# Altium integrated library Protel DOS Schematic Libraries.IntLib: 1273 symbols (part 6 of 9)
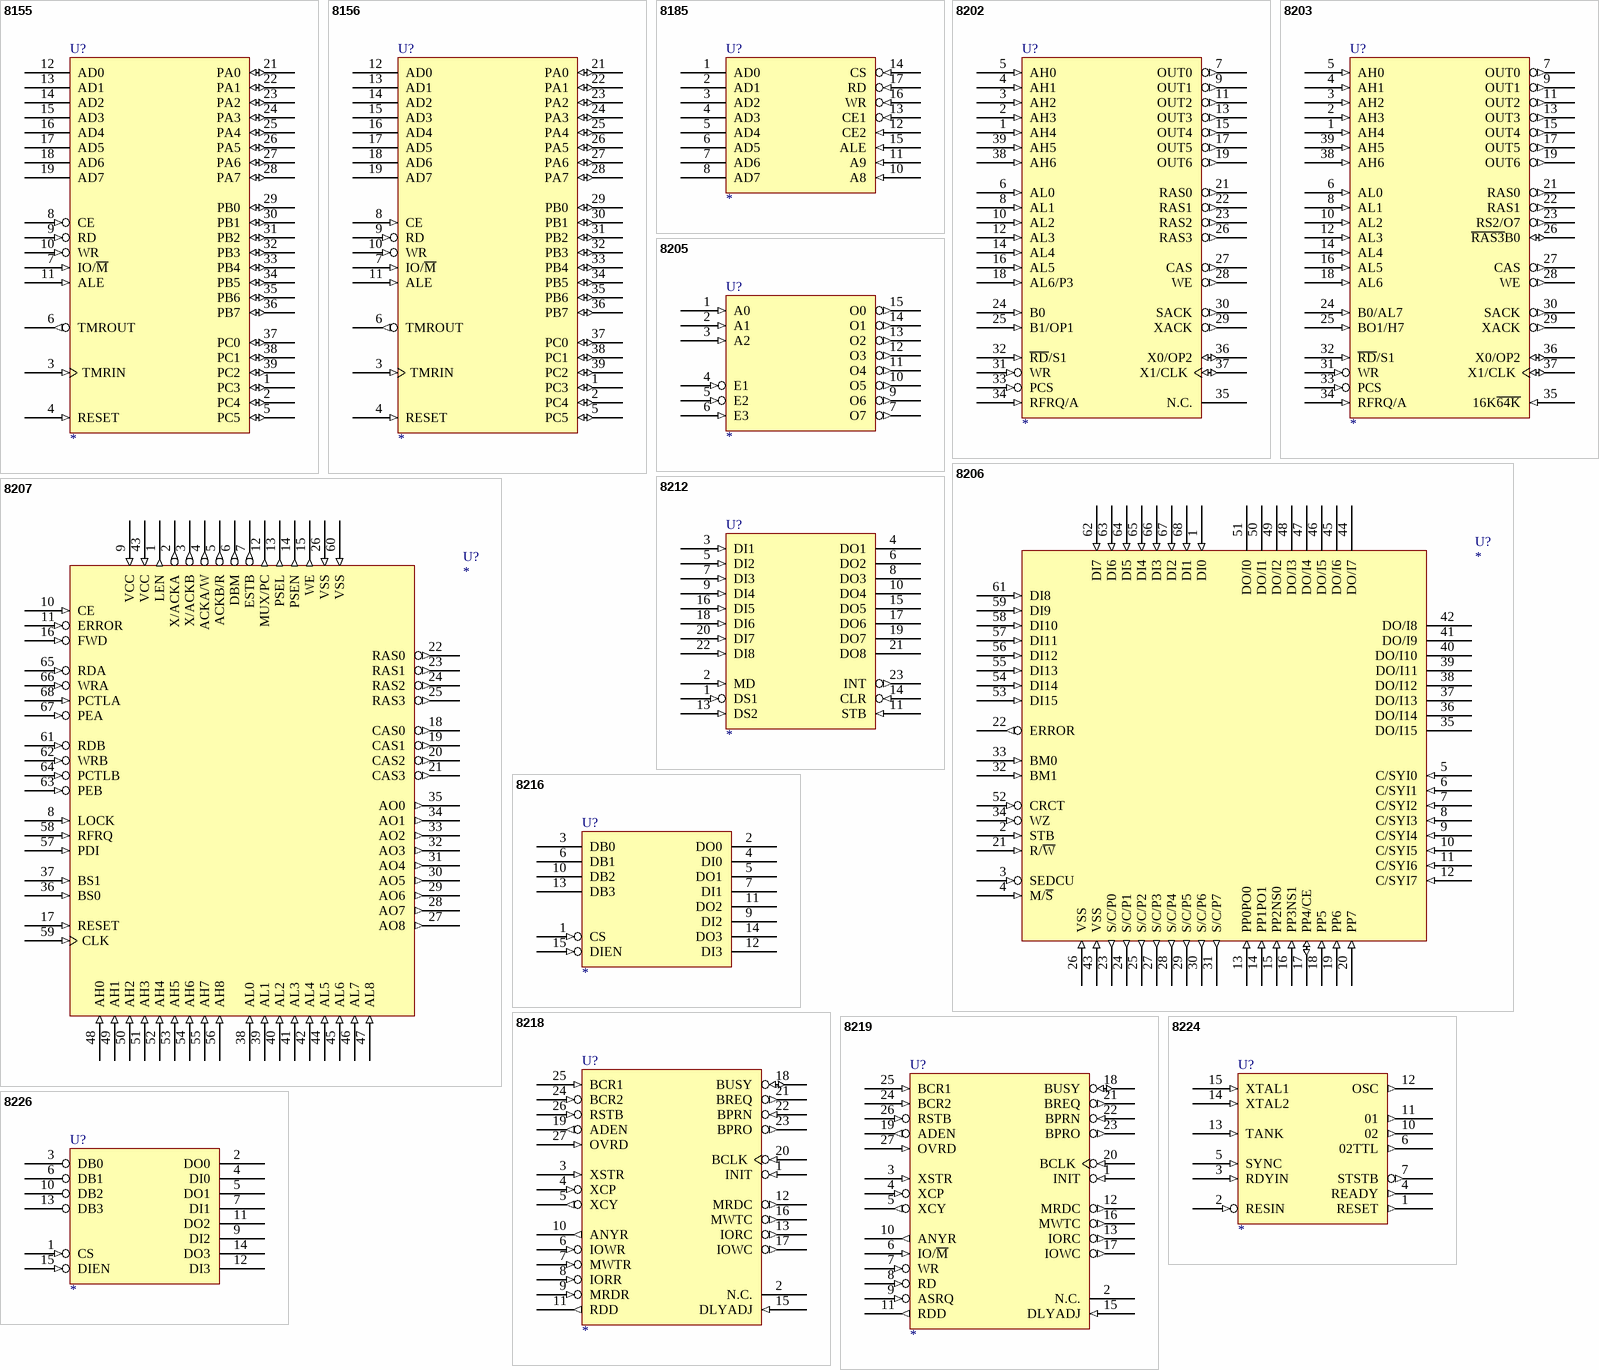
[diagram p74: symbols 8155 to 8226]

## 8219
designator U?
footprint DIP-28
pins: 1 INIT (in), 2 N.C., 3 XSTR (in), 4 XCP (in), 5 XCY (out), 6 IO/~{M} (in), 7 WR (in), 8 RD (in), 9 ASRQ (in), 10 ANYR (out), 11 RDD (out), 12 MRDC (out), 13 IORC (out), 14 GND (power) hidden to GND, 15 DLYADJ (in), 16 MWTC (out), 17 IOWC (out), 18 BUSY (io), 19 ADEN (out), 20 BCLK (in), 21 BREQ (out), 22 BPRN (in), 23 BPRO (out), 24 BCR2 (in), 25 BCR1 (in), 26 RSTB (in), 27 OVRD (in), 28 VCC (power) hidden to VCC

## 8224
designator U?
footprint DIP-16
pins: 1 RESET (out), 2 RESIN (in), 3 RDYIN (in), 4 READY (out), 5 SYNC (in), 6 02TTL (out), 7 STSTB (out), 8 GND (power) hidden to GND, 9 VDD (power) hidden to VDD, 10 02 (out), 11 01 (out), 12 OSC (out), 13 TANK (in), 14 XTAL2 (in), 15 XTAL1 (in), 16 VCC (power) hidden to VCC

## 8226
designator U?
footprint DIP-16
pins: 1 CS (in), 2 DO0 (hiz), 3 DB0 (hiz), 4 DI0 (hiz), 5 DO1 (hiz), 6 DB1 (hiz), 7 DI1 (hiz), 8 GND (power) hidden to GND, 9 DI2 (hiz), 10 DB2 (hiz), 11 DO2 (hiz), 12 DI3 (hiz), 13 DB3 (hiz), 14 DO3 (hiz), 15 DIEN (in), 16 VCC (power) hidden to VCC

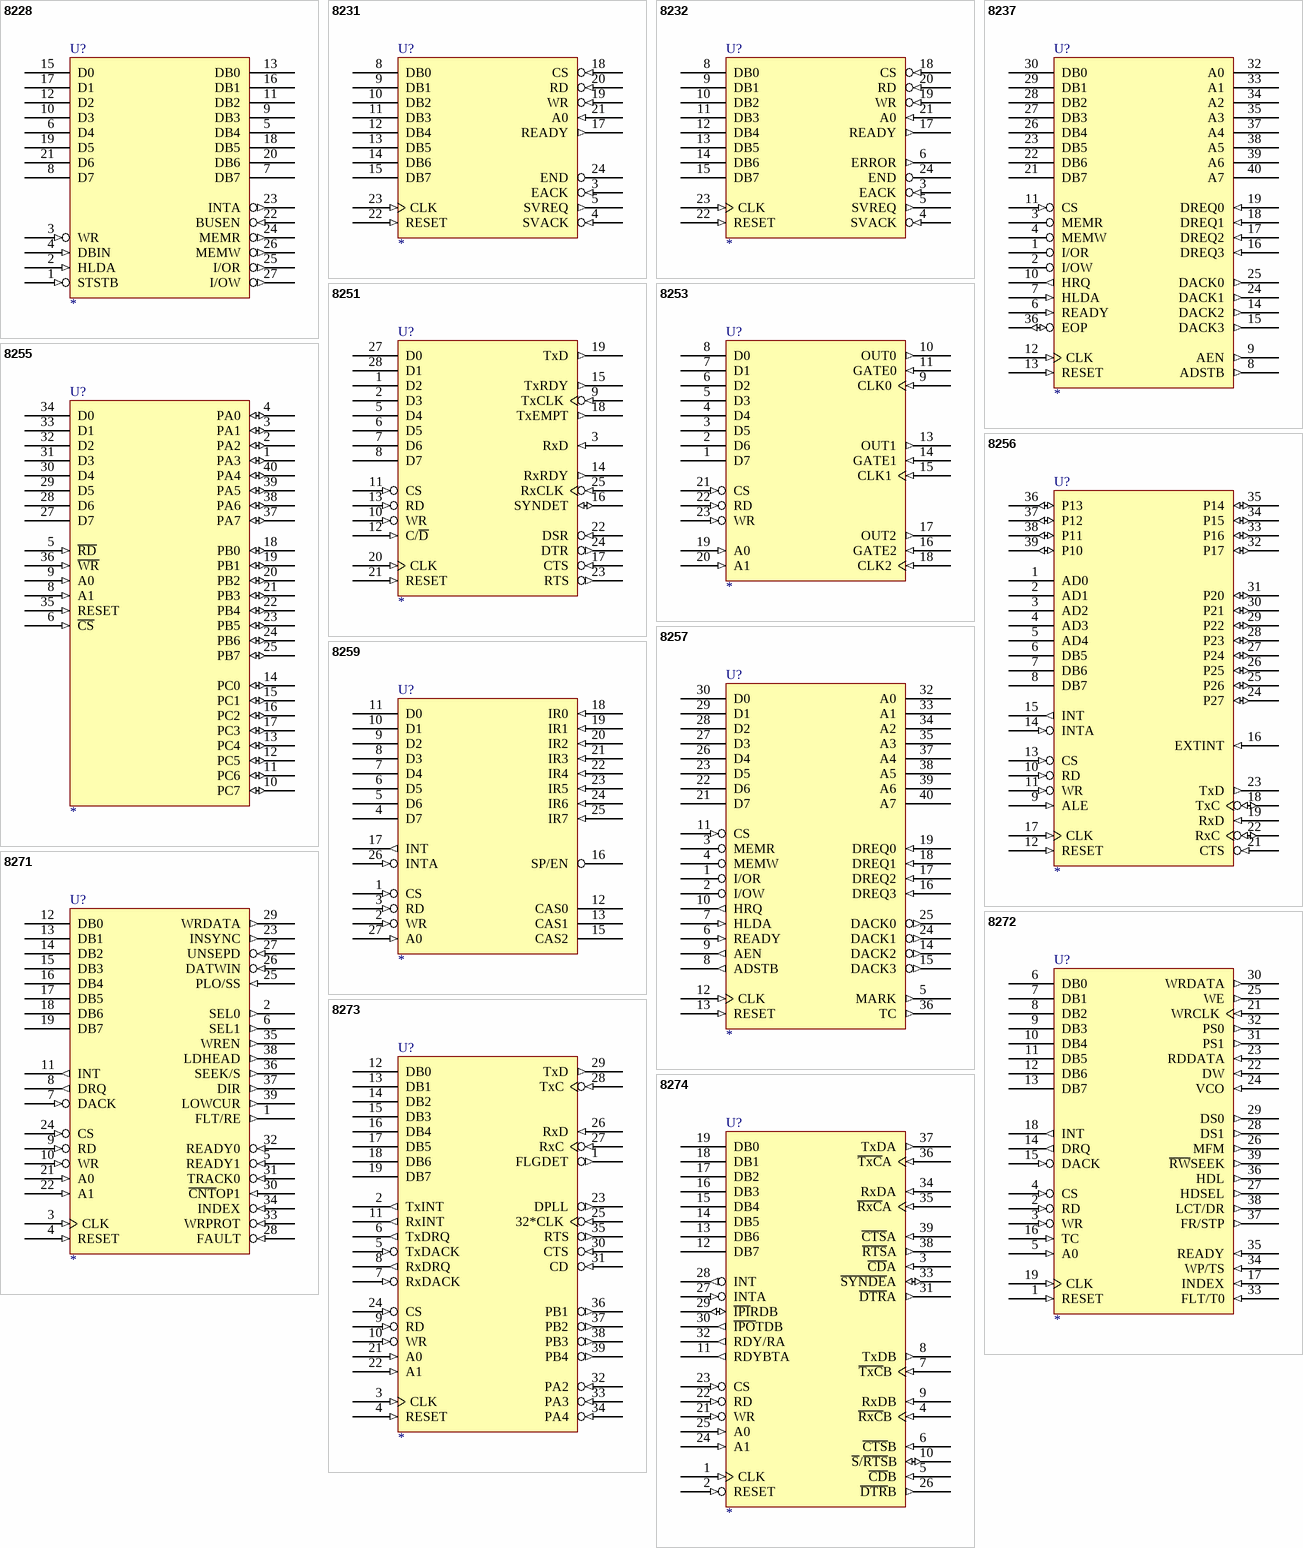
[diagram p39: symbols 8228 to 8274]

## 8228
designator U?
footprint DIP-28
pins: 1 STSTB (in), 2 HLDA (in), 3 WR (in), 4 DBIN (in), 5 DB4 (hiz), 6 D4 (hiz), 7 DB7 (hiz), 8 D7 (hiz), 9 DB3 (hiz), 10 D3 (hiz), 11 DB2 (hiz), 12 D2 (hiz), 13 DB0 (hiz), 14 GND (power) hidden to GND, 15 D0 (hiz), 16 DB1 (hiz), 17 D1 (hiz), 18 DB5 (hiz), 19 D5 (hiz), 20 DB6 (hiz), 21 D6 (hiz), 22 BUSEN (in), 23 INTA (out), 24 MEMR (out), 25 I/OR (out), 26 MEMW (out), 27 I/OW (out), 28 VCC (power) hidden to VCC

## 8231
designator U?
footprint DIP-24
pins: 1 GND (power) hidden to GND, 2 VCC (power) hidden to VCC, 3 EACK (in), 4 SVACK (in), 5 SVREQ (out), 6 GND (power) hidden to GND, 7 GND (power) hidden to GND, 8 DB0 (hiz), 9 DB1 (hiz), 10 DB2 (hiz), 11 DB3 (hiz), 12 DB4 (hiz), 13 DB5 (hiz), 14 DB6 (hiz), 15 DB7 (hiz), 16 VDD (power) hidden to VDD, 17 READY (out), 18 CS (in), 19 WR (in), 20 RD (in), 21 A0 (in), 22 RESET (in), 23 CLK (in), 24 END (oc)

## 8232
designator U?
footprint DIP-24
pins: 1 GND (power) hidden to GND, 2 VCC (power) hidden to VCC, 3 EACK (in), 4 SVACK (in), 5 SVREQ (out), 6 ERROR (out), 7 GND (power) hidden to GND, 8 DB0 (hiz), 9 DB1 (hiz), 10 DB2 (hiz), 11 DB3 (hiz), 12 DB4 (hiz), 13 DB5 (hiz), 14 DB6 (hiz), 15 DB7 (hiz), 16 VDD (power) hidden to VDD, 17 READY (out), 18 CS (in), 19 WR (in), 20 RD (in), 21 A0 (in), 22 RESET (in), 23 CLK (in), 24 END (oc)

## 8237
designator U?
footprint DIP-40
pins: 1 I/OR (hiz), 2 I/OW (hiz), 3 MEMR (hiz), 4 MEMW (hiz), 5 VCC (power) hidden to VCC, 6 READY (in), 7 HLDA (in), 8 ADSTB (out), 9 AEN (out), 10 HRQ (out), 11 CS (in), 12 CLK (in), 13 RESET (in), 14 DACK2 (out), 15 DACK3 (out), 16 DREQ3 (in), 17 DREQ2 (in), 18 DREQ1 (in), 19 DREQ0 (in), 20 GND (power) hidden to GND, 21 DB7 (hiz), 22 DB6 (hiz), 23 DB5 (hiz), 24 DACK1 (out), 25 DACK0 (out), 26 DB4 (hiz), 27 DB3 (hiz), 28 DB2 (hiz), 29 DB1 (hiz), 30 DB0 (hiz), 31 VCC (power) hidden to VCC, 32 A0 (hiz), 33 A1 (hiz), 34 A2 (hiz), 35 A3 (hiz), 36 EOP (io), 37 A4 (hiz), 38 A5 (hiz), 39 A6 (hiz), 40 A7 (hiz)

## 8251
designator U?
footprint DIP-28
pins: 1 D2 (hiz), 2 D3 (hiz), 3 RxD (in), 4 GND (power) hidden to GND, 5 D4 (hiz), 6 D5 (hiz), 7 D6 (hiz), 8 D7 (hiz), 9 TxCLK (in), 10 WR (in), 11 CS (in), 12 C/~{D} (in), 13 RD (in), 14 RxRDY (out), 15 TxRDY (out), 16 SYNDET (io), 17 CTS (in), 18 TxEMPT (out), 19 TxD (out), 20 CLK (in), 21 RESET (in), 22 DSR (in), 23 RTS (out), 24 DTR (out), 25 RxCLK (in), 26 VCC (power) hidden to VCC, 27 D0 (hiz), 28 D1 (hiz)

## 8253
designator U?
footprint DIP-24
pins: 1 D7 (hiz), 2 D6 (hiz), 3 D5 (hiz), 4 D4 (hiz), 5 D3 (hiz), 6 D2 (hiz), 7 D1 (hiz), 8 D0 (hiz), 9 CLK0 (in), 10 OUT0 (out), 11 GATE0 (in), 12 GND (power) hidden to GND, 13 OUT1 (out), 14 GATE1 (in), 15 CLK1 (in), 16 GATE2 (in), 17 OUT2 (out), 18 CLK2 (in), 19 A0 (in), 20 A1 (in), 21 CS (in), 22 RD (in), 23 WR (in), 24 VCC (power) hidden to VCC

## 8255
designator U?
footprint DIP-40
pins: 1 PA3 (io), 2 PA2 (io), 3 PA1 (io), 4 PA0 (io), 5 ~{RD} (in), 6 ~{CS} (in), 7 GND (power) hidden to GND, 8 A1 (in), 9 A0 (in), 10 PC7 (io), 11 PC6 (io), 12 PC5 (io), 13 PC4 (io), 14 PC0 (io), 15 PC1 (io), 16 PC2 (io), 17 PC3 (io), 18 PB0 (io), 19 PB1 (io), 20 PB2 (io), 21 PB3 (io), 22 PB4 (io), 23 PB5 (io), 24 PB6 (io), 25 PB7 (io), 26 VCC (power) hidden to VCC, 27 D7 (hiz), 28 D6 (hiz), 29 D5 (hiz), 30 D4 (hiz), 31 D3 (hiz), 32 D2 (hiz), 33 D1 (hiz), 34 D0 (hiz), 35 RESET (in), 36 ~{WR} (in), 37 PA7 (io), 38 PA6 (io), 39 PA5 (io), 40 PA4 (io)

## 8256
designator U?
footprint DIP-40
pins: 1 AD0 (hiz), 2 AD1 (hiz), 3 AD2 (hiz), 4 AD3 (hiz), 5 AD4 (hiz), 6 DB5 (hiz), 7 DB6 (hiz), 8 DB7 (hiz), 9 ALE (in), 10 RD (in), 11 WR (in), 12 RESET (in), 13 CS (in), 14 INTA (in), 15 INT (out), 16 EXTINT (in), 17 CLK (in), 18 TxC (io), 19 RxD (in), 20 GND (power) hidden to GND, 21 CTS (in), 22 RxC (io), 23 TxD (out), 24 P27 (io), 25 P26 (io), 26 P25 (io), 27 P24 (io), 28 P23 (io), 29 P22 (io), 30 P21 (io), 31 P20 (io), 32 P17 (io), 33 P16 (io), 34 P15 (io), 35 P14 (io), 36 P13 (io), 37 P12 (io), 38 P11 (io), 39 P10 (io), 40 VCC (power) hidden to VCC

## 8257
designator U?
footprint DIP-40
pins: 1 I/OR (hiz), 2 I/OW (hiz), 3 MEMR (hiz), 4 MEMW (hiz), 5 MARK (out), 6 READY (in), 7 HLDA (in), 8 ADSTB (out), 9 AEN (out), 10 HRQ (out), 11 CS (in), 12 CLK (in), 13 RESET (in), 14 DACK2 (out), 15 DACK3 (out), 16 DREQ3 (in), 17 DREQ2 (in), 18 DREQ1 (in), 19 DREQ0 (in), 20 GND (power) hidden to GND, 21 D7 (hiz), 22 D6 (hiz), 23 D5 (hiz), 24 DACK1 (out), 25 DACK0 (out), 26 D4 (hiz), 27 D3 (hiz), 28 D2 (hiz), 29 D1 (hiz), 30 D0 (hiz), 31 VCC (power) hidden to VCC, 32 A0 (hiz), 33 A1 (hiz), 34 A2 (hiz), 35 A3 (hiz), 36 TC (out), 37 A4 (hiz), 38 A5 (hiz), 39 A6 (hiz), 40 A7 (hiz)

## 8259
designator U?
footprint DIP-28
pins: 1 CS (in), 2 WR (in), 3 RD (in), 4 D7 (hiz), 5 D6 (hiz), 6 D5 (hiz), 7 D4 (hiz), 8 D3 (hiz), 9 D2 (hiz), 10 D1 (hiz), 11 D0 (hiz), 12 CAS0 (hiz), 13 CAS1 (hiz), 14 GND (power) hidden to GND, 15 CAS2 (hiz), 16 SP/EN (hiz), 17 INT (out), 18 IR0 (in), 19 IR1 (in), 20 IR2 (in), 21 IR3 (in), 22 IR4 (in), 23 IR5 (in), 24 IR6 (in), 25 IR7 (in), 26 INTA (in), 27 A0 (in), 28 VCC (power) hidden to VCC

## 8271
designator U?
footprint DIP-40
pins: 1 FLT/RE (out), 2 SEL0 (out), 3 CLK (in), 4 RESET (in), 5 READY1 (in), 6 SEL1 (out), 7 DACK (in), 8 DRQ (out), 9 RD (in), 10 WR (in), 11 INT (out), 12 DB0 (hiz), 13 DB1 (hiz), 14 DB2 (hiz), 15 DB3 (hiz), 16 DB4 (hiz), 17 DB5 (hiz), 18 DB6 (hiz), 19 DB7 (hiz), 20 GND (power) hidden to GND, 21 A0 (in), 22 A1 (in), 23 INSYNC (out), 24 CS (in), 25 PLO/SS (in), 26 DATWIN (in), 27 UNSEPD (in), 28 FAULT (in), 29 WRDATA (out), 30 ~{CNT}OP1 (in), 31 TRACK0 (in), 32 READY0 (in), 33 WRPROT (in), 34 INDEX (in), 35 WREN (out), 36 SEEK/S (out), 37 DIR (out), 38 LDHEAD (out), 39 LOWCUR (out), 40 VCC (power) hidden to VCC

## 8272
designator U?
footprint DIP-40
pins: 1 RESET (in), 2 RD (in), 3 WR (in), 4 CS (in), 5 A0 (in), 6 DB0 (hiz), 7 DB1 (hiz), 8 DB2 (hiz), 9 DB3 (hiz), 10 DB4 (hiz), 11 DB5 (hiz), 12 DB6 (hiz), 13 DB7 (hiz), 14 DRQ (out), 15 DACK (in), 16 TC (in), 17 INDEX (in), 18 INT (out), 19 CLK (in), 20 GND (power) hidden to GND, 21 WRCLK (in), 22 DW (in), 23 RDDATA (in), 24 VCO (in), 25 WE (out), 26 MFM (out), 27 HDSEL (out), 28 DS1 (out), 29 DS0 (out), 30 WRDATA (out), 31 PS1 (out), 32 PS0 (out), 33 FLT/T0 (in), 34 WP/TS (in), 35 READY (in), 36 HDL (out), 37 FR/STP (out), 38 LCT/DR (out), 39 ~{RW}SEEK (out), 40 VCC (power) hidden to VCC

## 8273
designator U?
footprint DIP-40
pins: 1 FLGDET (out), 2 TxINT (out), 3 CLK (in), 4 RESET (in), 5 TxDACK (in), 6 TxDRQ (out), 7 RxDACK (in), 8 RxDRQ (out), 9 RD (in), 10 WR (in), 11 RxINT (out), 12 DB0 (hiz), 13 DB1 (hiz), 14 DB2 (hiz), 15 DB3 (hiz), 16 DB4 (hiz), 17 DB5 (hiz), 18 DB6 (hiz), 19 DB7 (hiz), 20 GND (power) hidden to GND, 21 A0 (in), 22 A1 (in), 23 DPLL (out), 24 CS (in), 25 32*CLK (in), 26 RxD (in), 27 RxC (in), 28 TxC (in), 29 TxD (out), 30 CTS (in), 31 CD (in), 32 PA2 (in), 33 PA3 (in), 34 PA4 (in), 35 RTS (out), 36 PB1 (out), 37 PB2 (out), 38 PB3 (out), 39 PB4 (out), 40 VCC (power) hidden to VCC

## 8274
designator U?
footprint DIP-40
pins: 1 CLK (in), 2 RESET (in), 3 ~{CD}A (in), 4 ~{RxC}B (in), 5 ~{CD}B (in), 6 ~{CTS}B (in), 7 ~{TxC}B (in), 8 TxDB (out), 9 RxDB (in), 10 ~{S}/~{RTS}B (io), 11 RDYBTA (out), 12 DB7 (hiz), 13 DB6 (hiz), 14 DB5 (hiz), 15 DB4 (hiz), 16 DB3 (hiz), 17 DB2 (hiz), 18 DB1 (hiz), 19 DB0 (hiz), 20 GND (power) hidden to GND, 21 WR (in), 22 RD (in), 23 CS (in), 24 A1 (in), 25 A0 (in), 26 ~{DTR}B (out), 27 INTA (in), 28 INT (out), 29 ~{IPI}RDB (io), 30 ~{IPO}TDB (out), 31 ~{DTR}A (out), 32 RDY/RA (out), 33 ~{SYNDE}A (io), 34 RxDA (in), 35 ~{RxC}A (in), 36 ~{TxC}A (in), 37 TxDA (out), 38 ~{RTS}A (out), 39 ~{CTS}A (in), 40 VCC (power) hidden to VCC

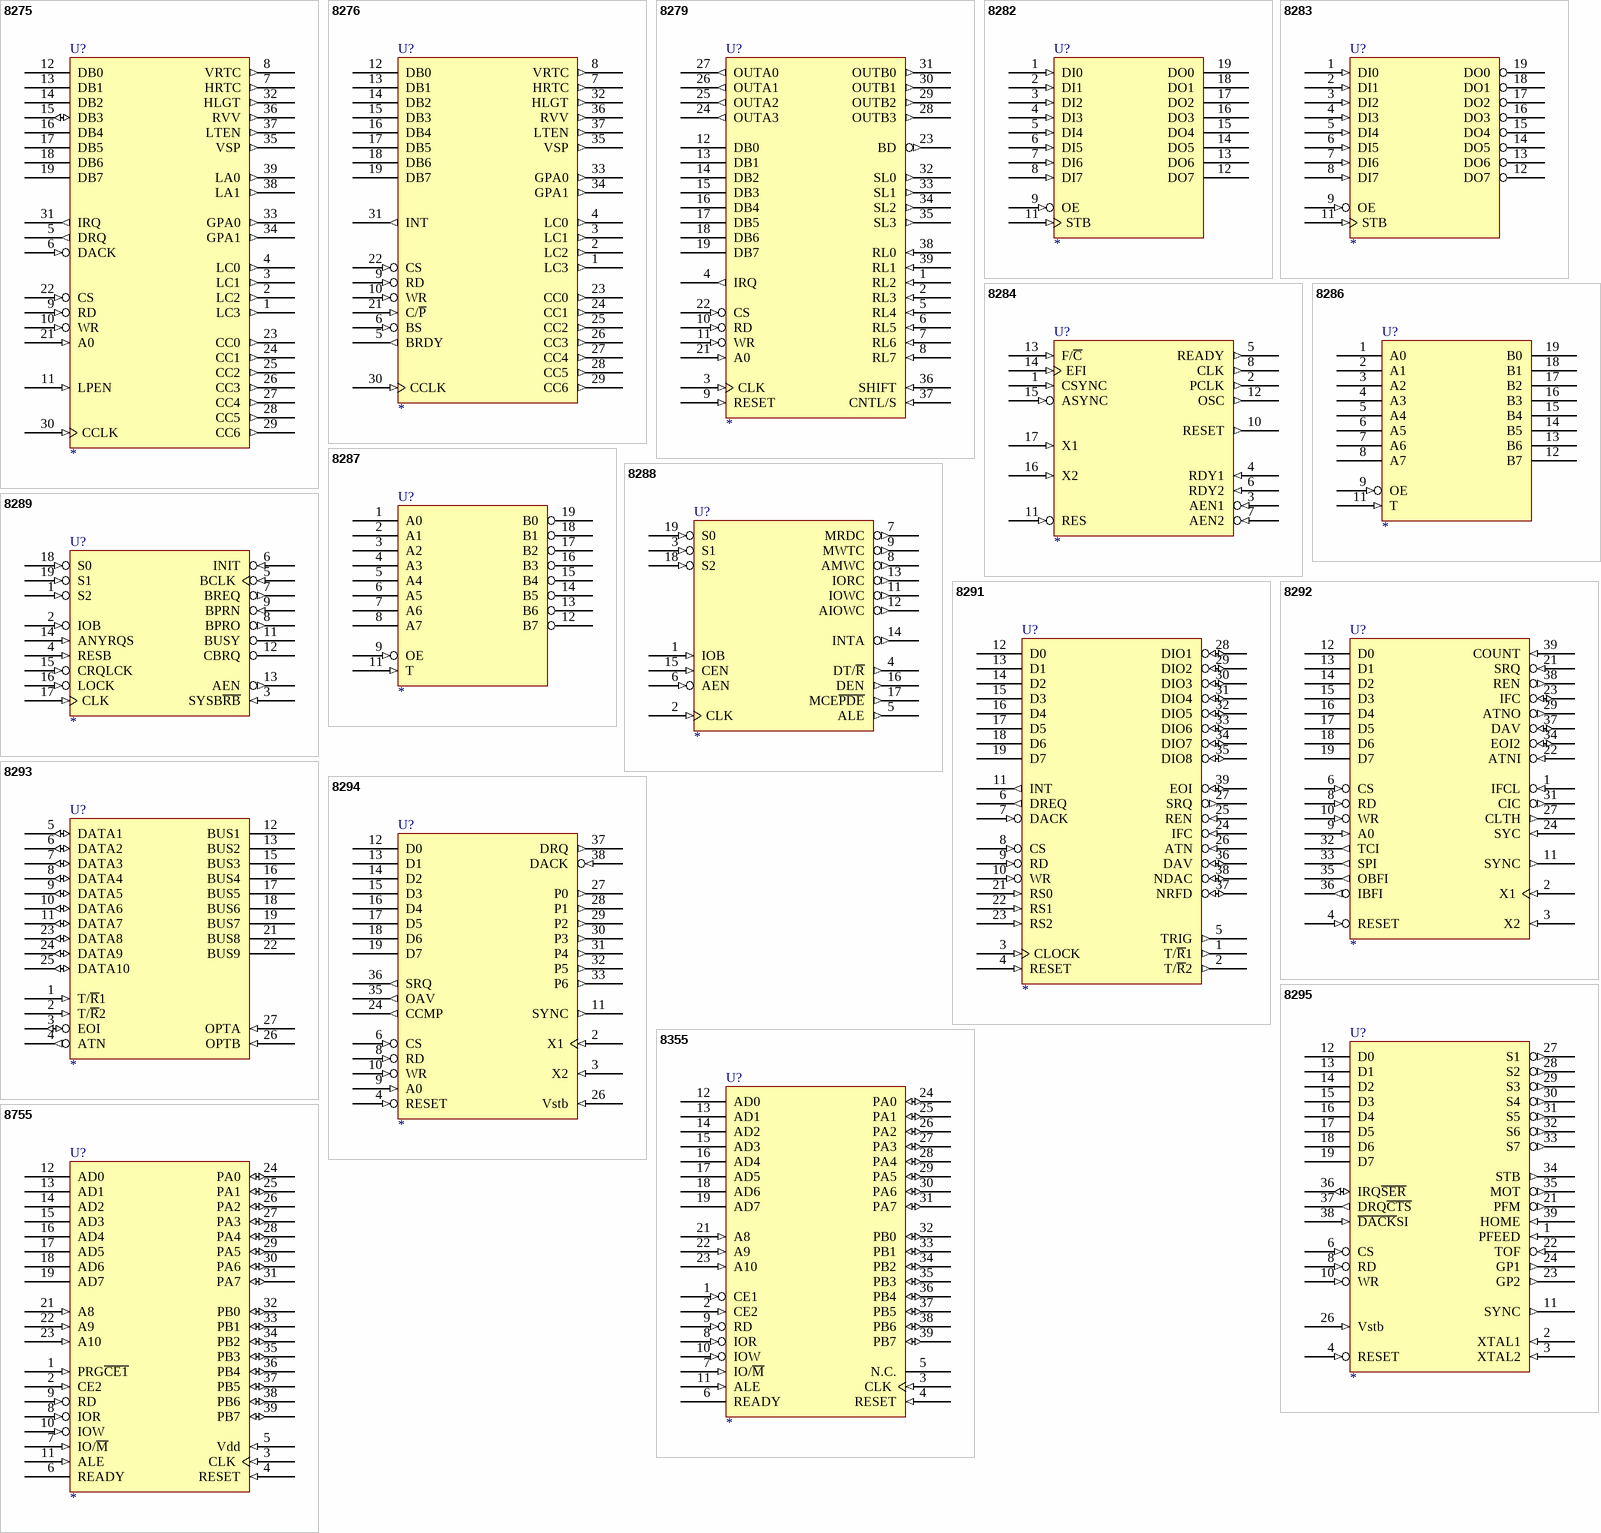
[diagram p40: symbols 8275 to 8755]

## 8275
designator U?
footprint DIP-40
pins: 1 LC3 (out), 2 LC2 (out), 3 LC1 (out), 4 LC0 (out), 5 DRQ (out), 6 DACK (in), 7 HRTC (out), 8 VRTC (out), 9 RD (in), 10 WR (in), 11 LPEN (in), 12 DB0 (hiz), 13 DB1 (hiz), 14 DB2 (hiz), 15 DB3 (io), 16 DB4 (hiz), 17 DB5 (hiz), 18 DB6 (hiz), 19 DB7 (hiz), 20 GND (power) hidden to GND, 21 A0 (in), 22 CS (in), 23 CC0 (out), 24 CC1 (out), 25 CC2 (out), 26 CC3 (out), 27 CC4 (out), 28 CC5 (out), 29 CC6 (out), 30 CCLK (in), 31 IRQ (out), 32 HLGT (out), 33 GPA0 (out), 34 GPA1 (out), 35 VSP (out), 36 RVV (out), 37 LTEN (out), 38 LA1 (out), 39 LA0 (out), 40 VCC (power) hidden to VCC

## 8276
designator U?
footprint DIP-40
pins: 1 LC3 (out), 2 LC2 (out), 3 LC1 (out), 4 LC0 (out), 5 BRDY (out), 6 BS (in), 7 HRTC (out), 8 VRTC (out), 9 RD (in), 10 WR (in), 12 DB0 (hiz), 13 DB1 (hiz), 14 DB2 (hiz), 15 DB3 (hiz), 16 DB4 (hiz), 17 DB5 (hiz), 18 DB6 (hiz), 19 DB7 (hiz), 20 GND (power) hidden to GND, 21 C/~{P} (in), 22 CS (in), 23 CC0 (out), 24 CC1 (out), 25 CC2 (out), 26 CC3 (out), 27 CC4 (out), 28 CC5 (out), 29 CC6 (out), 30 CCLK (in), 31 INT (out), 32 HLGT (out), 33 GPA0 (out), 34 GPA1 (out), 35 VSP (out), 36 RVV (out), 37 LTEN (out), 40 VCC (power) hidden to VCC

## 8279
designator U?
footprint DIP-40
pins: 1 RL2 (in), 2 RL3 (in), 3 CLK (in), 4 IRQ (out), 5 RL4 (in), 6 RL5 (in), 7 RL6 (in), 8 RL7 (in), 9 RESET (in), 10 RD (in), 11 WR (in), 12 DB0 (hiz), 13 DB1 (hiz), 14 DB2 (hiz), 15 DB3 (hiz), 16 DB4 (hiz), 17 DB5 (hiz), 18 DB6 (hiz), 19 DB7 (hiz), 20 GND (power) hidden to GND, 21 A0 (in), 22 CS (in), 23 BD (out), 24 OUTA3 (out), 25 OUTA2 (out), 26 OUTA1 (out), 27 OUTA0 (out), 28 OUTB3 (out), 29 OUTB2 (out), 30 OUTB1 (out), 31 OUTB0 (out), 32 SL0 (out), 33 SL1 (out), 34 SL2 (out), 35 SL3 (out), 36 SHIFT (in), 37 CNTL/S (in), 38 RL0 (in), 39 RL1 (in), 40 VCC (power) hidden to VCC

## 8282
designator U?
footprint DIP-20
pins: 1 DI0 (in), 2 DI1 (in), 3 DI2 (in), 4 DI3 (in), 5 DI4 (in), 6 DI5 (in), 7 DI6 (in), 8 DI7 (in), 9 OE (in), 10 GND (power) hidden to GND, 11 STB (in), 12 DO7 (hiz), 13 DO6 (hiz), 14 DO5 (hiz), 15 DO4 (hiz), 16 DO3 (hiz), 17 DO2 (hiz), 18 DO1 (hiz), 19 DO0 (hiz), 20 VCC (power) hidden to VCC

## 8283
designator U?
footprint DIP-20
pins: 1 DI0 (in), 2 DI1 (in), 3 DI2 (in), 4 DI3 (in), 5 DI4 (in), 6 DI5 (in), 7 DI6 (in), 8 DI7 (in), 9 OE (in), 10 GND (power) hidden to GND, 11 STB (in), 12 DO7 (hiz), 13 DO6 (hiz), 14 DO5 (hiz), 15 DO4 (hiz), 16 DO3 (hiz), 17 DO2 (hiz), 18 DO1 (hiz), 19 DO0 (hiz), 20 VCC (power) hidden to VCC

## 8284
designator U?
footprint DIP-18
pins: 1 CSYNC (in), 2 PCLK (out), 3 AEN1 (in), 4 RDY1 (in), 5 READY (out), 6 RDY2 (in), 7 AEN2 (in), 8 CLK (out), 9 GND (power) hidden to GND, 10 RESET (out), 11 RES (in), 12 OSC (out), 13 F/~{C} (in), 14 EFI (in), 15 ASYNC (in), 16 X2 (in), 17 X1 (in), 18 VCC (power) hidden to VCC

## 8286
designator U?
footprint DIP-20
pins: 1 A0 (hiz), 2 A1 (hiz), 3 A2 (hiz), 4 A3 (hiz), 5 A4 (hiz), 6 A5 (hiz), 7 A6 (hiz), 8 A7 (hiz), 9 OE (in), 10 GND (power) hidden to GND, 11 T (in), 12 B7 (hiz), 13 B6 (hiz), 14 B5 (hiz), 15 B4 (hiz), 16 B3 (hiz), 17 B2 (hiz), 18 B1 (hiz), 19 B0 (hiz), 20 VCC (power) hidden to VCC

## 8287
designator U?
footprint DIP-20
pins: 1 A0 (hiz), 2 A1 (hiz), 3 A2 (hiz), 4 A3 (hiz), 5 A4 (hiz), 6 A5 (hiz), 7 A6 (hiz), 8 A7 (hiz), 9 OE (in), 10 GND (power) hidden to GND, 11 T (in), 12 B7 (hiz), 13 B6 (hiz), 14 B5 (hiz), 15 B4 (hiz), 16 B3 (hiz), 17 B2 (hiz), 18 B1 (hiz), 19 B0 (hiz), 20 VCC (power) hidden to VCC

## 8288
designator U?
footprint DIP-20
pins: 1 IOB (in), 2 CLK (in), 3 S1 (in), 4 DT/~{R} (out), 5 ALE (out), 6 AEN (in), 7 MRDC (out), 8 AMWC (out), 9 MWTC (out), 10 GND (power) hidden to GND, 11 IOWC (out), 12 AIOWC (out), 13 IORC (out), 14 INTA (out), 15 CEN (in), 16 DEN (out), 17 MCE~{PDE} (out), 18 S2 (in), 19 S0 (in), 20 VCC (power) hidden to VCC

## 8289
designator U?
footprint DIP-20
pins: 1 S2 (in), 2 IOB (in), 3 SYSB~{RB} (in), 4 RESB (in), 5 BCLK (in), 6 INIT (in), 7 BREQ (out), 8 BPRO (out), 9 BPRN (in), 10 GND (power) hidden to GND, 11 BUSY (oc), 12 CBRQ (oc), 13 AEN (out), 14 ANYRQS (in), 15 CRQLCK (in), 16 LOCK (in), 17 CLK (in), 18 S0 (in), 19 S1 (in), 20 VCC (power) hidden to VCC

## 8291
designator U?
footprint DIP-40
pins: 1 T/~{R}1 (out), 2 T/~{R}2 (out), 3 CLOCK (in), 4 RESET (in), 5 TRIG (out), 6 DREQ (out), 7 DACK (in), 8 CS (in), 9 RD (in), 10 WR (in), 11 INT (out), 12 D0 (hiz), 13 D1 (hiz), 14 D2 (hiz), 15 D3 (hiz), 16 D4 (hiz), 17 D5 (hiz), 18 D6 (hiz), 19 D7 (hiz), 20 GND (power) hidden to GND, 21 RS0 (in), 22 RS1 (in), 23 RS2 (in), 24 IFC (in), 25 REN (in), 26 ATN (in), 27 SRQ (out), 28 DIO1 (io), 29 DIO2 (io), 30 DIO3 (io), 31 DIO4 (io), 32 DIO5 (io), 33 DIO6 (io), 34 DIO7 (io), 35 DIO8 (io), 36 DAV (io), 37 NRFD (io), 38 NDAC (io), 39 EOI (io), 40 VCC (power) hidden to VCC

## 8292
designator U?
footprint DIP-40
pins: 1 IFCL (in), 2 X1 (in), 3 X2 (in), 4 RESET (in), 5 VCC (power) hidden to VCC, 6 CS (in), 7 GND (power) hidden to GND, 8 RD (in), 9 A0 (in), 10 WR (in), 11 SYNC (out), 12 D0 (hiz), 13 D1 (hiz), 14 D2 (hiz), 15 D3 (hiz), 16 D4 (hiz), 17 D5 (hiz), 18 D6 (hiz), 19 D7 (hiz), 20 GND (power) hidden to GND, 21 SRQ (in), 22 ATNI (in), 23 IFC (io), 24 SYC (in), 26 VCC (power) hidden to VCC, 27 CLTH (out), 29 ATNO (out), 31 CIC (out), 32 TCI (out), 33 SPI (out), 34 EOI2 (io), 35 OBFI (out), 36 IBFI (out), 37 DAV (io), 38 REN (out), 39 COUNT (in), 40 VCC (power) hidden to VCC

## 8293
designator U?
footprint DIP-28
pins: 1 T/~{R}1 (in), 2 T/~{R}2 (in), 3 EOI (io), 4 ATN (out), 5 DATA1 (io), 6 DATA2 (io), 7 DATA3 (io), 8 DATA4 (io), 9 DATA5 (io), 10 DATA6 (io), 11 DATA7 (io), 12 BUS1 (hiz), 13 BUS2 (hiz), 14 GND (power) hidden to GND, 15 BUS3 (hiz), 16 BUS4 (hiz), 17 BUS5 (hiz), 18 BUS6 (hiz), 19 BUS7 (hiz), 20 GND (power) hidden to GND, 21 BUS8 (hiz), 22 BUS9 (hiz), 23 DATA8 (io), 24 DATA9 (io), 25 DATA10 (io), 26 OPTB (in), 27 OPTA (in), 28 VCC (power) hidden to VCC

## 8294
designator U?
footprint DIP-40
pins: 2 X1 (in), 3 X2 (in), 4 RESET (in), 5 VCC (power) hidden to VCC, 6 CS (in), 7 GND (power) hidden to GND, 8 RD (in), 9 A0 (in), 10 WR (in), 11 SYNC (out), 12 D0 (hiz), 13 D1 (hiz), 14 D2 (hiz), 15 D3 (hiz), 16 D4 (hiz), 17 D5 (hiz), 18 D6 (hiz), 19 D7 (hiz), 20 GND (power) hidden to GND, 24 CCMP (out), 25 VCC (power) hidden to VCC, 26 Vstb (in), 27 P0 (out), 28 P1 (out), 29 P2 (out), 30 P3 (out), 31 P4 (out), 32 P5 (out), 33 P6 (out), 35 OAV (out), 36 SRQ (out), 37 DRQ (out), 38 DACK (in), 40 VCC (power) hidden to VCC

## 8295
designator U?
footprint DIP-40
pins: 1 PFEED (in), 2 XTAL1 (in), 3 XTAL2 (in), 4 RESET (in), 5 VCC (power) hidden to VCC, 6 CS (in), 7 GND (power) hidden to GND, 8 RD (in), 9 VCC (power) hidden to VCC, 10 WR (in), 11 SYNC (out), 12 D0 (hiz), 13 D1 (hiz), 14 D2 (hiz), 15 D3 (hiz), 16 D4 (hiz), 17 D5 (hiz), 18 D6 (hiz), 19 D7 (hiz), 20 GND (power) hidden to GND, 21 PFM (out), 22 TOF (in), 23 GP2 (out), 24 GP1 (out), 25 VCC (power) hidden to VCC, 26 Vstb (in), 27 S1 (out), 28 S2 (out), 29 S3 (out), 30 S4 (out), 31 S5 (out), 32 S6 (out), 33 S7 (out), 34 STB (out), 35 MOT (out), 36 IRQ~{SER} (io), 37 DRQ~{CTS} (out), 38 ~{DACK}SI (in), 39 HOME (in), 40 VCC (power) hidden to VCC

## 8355
designator U?
footprint DIP-40
pins: 1 CE1 (in), 2 CE2 (in), 3 CLK (in), 4 RESET (in), 5 N.C., 6 READY (hiz), 7 IO/~{M} (in), 8 IOR (in), 9 RD (in), 10 IOW (in), 11 ALE (in), 12 AD0 (hiz), 13 AD1 (hiz), 14 AD2 (hiz), 15 AD3 (hiz), 16 AD4 (hiz), 17 AD5 (hiz), 18 AD6 (hiz), 19 AD7 (hiz), 20 GND (power) hidden to GND, 21 A8 (in), 22 A9 (in), 23 A10 (in), 24 PA0 (io), 25 PA1 (io), 26 PA2 (io), 27 PA3 (io), 28 PA4 (io), 29 PA5 (io), 30 PA6 (io), 31 PA7 (io), 32 PB0 (io), 33 PB1 (io), 34 PB2 (io), 35 PB3 (io), 36 PB4 (io), 37 PB5 (io), 38 PB6 (io), 39 PB7 (io), 40 VCC (power) hidden to VCC

## 8755
designator U?
footprint DIP-40
pins: 1 PRG~{CE1} (in), 2 CE2 (in), 3 CLK (in), 4 RESET (in), 5 Vdd (in), 6 READY (hiz), 7 IO/~{M} (in), 8 IOR (in), 9 RD (in), 10 IOW (in), 11 ALE (in), 12 AD0 (hiz), 13 AD1 (hiz), 14 AD2 (hiz), 15 AD3 (hiz), 16 AD4 (hiz), 17 AD5 (hiz), 18 AD6 (hiz), 19 AD7 (hiz), 20 GND (power) hidden to GND, 21 A8 (in), 22 A9 (in), 23 A10 (in), 24 PA0 (io), 25 PA1 (io), 26 PA2 (io), 27 PA3 (io), 28 PA4 (io), 29 PA5 (io), 30 PA6 (io), 31 PA7 (io), 32 PB0 (io), 33 PB1 (io), 34 PB2 (io), 35 PB3 (io), 36 PB4 (io), 37 PB5 (io), 38 PB6 (io), 39 PB7 (io), 40 VCC (power) hidden to VCC

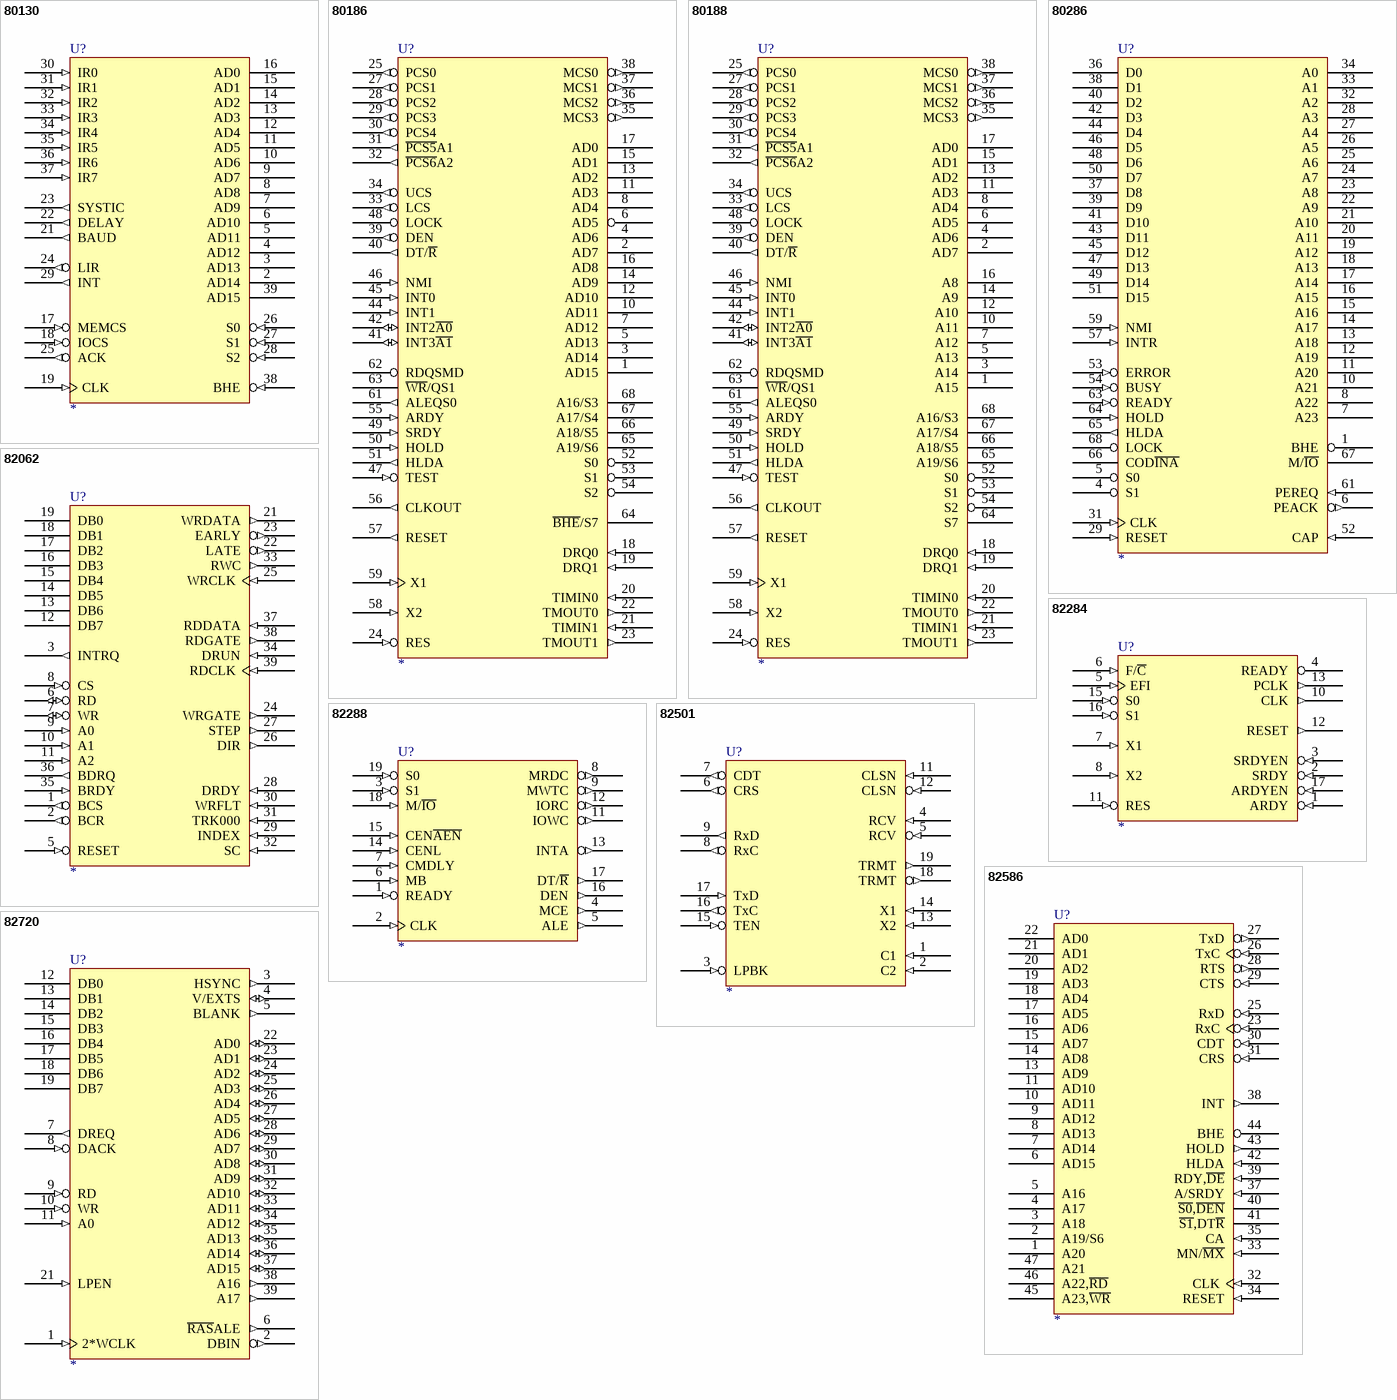
[diagram p41: symbols 80130 to 82720]

## 80130
designator U?
footprint DIP-40
pins: 1 GND (power) hidden to GND, 2 AD14 (hiz), 3 AD13 (hiz), 4 AD12 (hiz), 5 AD11 (hiz), 6 AD10 (hiz), 7 AD9 (hiz), 8 AD8 (hiz), 9 AD7 (hiz), 10 AD6 (hiz), 11 AD5 (hiz), 12 AD4 (hiz), 13 AD3 (hiz), 14 AD2 (hiz), 15 AD1 (hiz), 16 AD0 (hiz), 17 MEMCS (in), 18 IOCS (in), 19 CLK (in), 20 GND (power) hidden to GND, 21 BAUD (out), 22 DELAY (out), 23 SYSTIC (out), 24 LIR (out), 25 ACK (out), 26 S0 (in), 27 S1 (in), 28 S2 (in), 29 INT (out), 30 IR0 (in), 31 IR1 (in), 32 IR2 (in), 33 IR3 (in), 34 IR4 (in), 35 IR5 (in), 36 IR6 (in), 37 IR7 (in), 38 BHE (in), 39 AD15 (hiz), 40 VCC (power) hidden to VCC

## 80186
designator U?
footprint JEDECA-68
pins: 1 AD15 (hiz), 2 AD7 (hiz), 3 AD14 (hiz), 4 AD6 (hiz), 5 AD13 (hiz), 6 AD5 (hiz), 7 AD12 (hiz), 8 AD4 (hiz), 9 VCC (power) hidden to VCC, 10 AD11 (hiz), 11 AD3 (hiz), 12 AD10 (hiz), 13 AD2 (hiz), 14 AD9 (hiz), 15 AD1 (hiz), 16 AD8 (hiz), 17 AD0 (hiz), 18 DRQ0 (in), 19 DRQ1 (in), 20 TIMIN0 (in), 21 TIMIN1 (in), 22 TMOUT0 (out), 23 TMOUT1 (out), 24 RES (in), 25 PCS0 (out), 26 GND (power) hidden to GND, 27 PCS1 (out), 28 PCS2 (out), 29 PCS3 (out), 30 PCS4 (out), 31 ~{PCS5}A1 (out), 32 ~{PCS6}A2 (out), 33 LCS (out), 34 UCS (out), 35 MCS3 (out), 36 MCS2 (out), 37 MCS1 (out), 38 MCS0 (out), 39 DEN (out), 40 DT/~{R} (out), 41 INT3~{A1} (io), 42 INT2~{A0} (io), 43 VCC (power) hidden to VCC, 44 INT1 (in), 45 INT0 (in), 46 NMI (in), 47 TEST (in), 48 LOCK (hiz), 49 SRDY (in), 50 HOLD (in), 51 HLDA (out), 52 S0 (hiz), 53 S1 (hiz), 54 S2 (hiz), 55 ARDY (in), 56 CLKOUT (out), 57 RESET (out), 58 X2 (in), 59 X1 (in), 60 GND (power) hidden to GND, 61 ALEQS0 (out), 62 RDQSMD (hiz), 63 ~{WR}/QS1 (hiz), 64 ~{BHE}/S7 (hiz), 65 A19/S6 (hiz), 66 A18/S5 (hiz), 67 A17/S4 (hiz), 68 A16/S3 (hiz)

## 80188
designator U?
footprint JEDECA-68
pins: 1 A15 (hiz), 2 AD7 (hiz), 3 A14 (hiz), 4 AD6 (hiz), 5 A13 (hiz), 6 AD5 (hiz), 7 A12 (hiz), 8 AD4 (hiz), 9 VCC (power) hidden to VCC, 10 A11 (hiz), 11 AD3 (hiz), 12 A10 (hiz), 13 AD2 (hiz), 14 A9 (hiz), 15 AD1 (hiz), 16 A8 (hiz), 17 AD0 (hiz), 18 DRQ0 (in), 19 DRQ1 (in), 20 TIMIN0 (in), 21 TIMIN1 (in), 22 TMOUT0 (out), 23 TMOUT1 (out), 24 RES (in), 25 PCS0 (out), 26 GND (power) hidden to GND, 27 PCS1 (out), 28 PCS2 (out), 29 PCS3 (out), 30 PCS4 (out), 31 ~{PCS5}A1 (out), 32 ~{PCS6}A2 (out), 33 LCS (out), 34 UCS (out), 35 MCS3 (out), 36 MCS2 (out), 37 MCS1 (out), 38 MCS0 (out), 39 DEN (out), 40 DT/~{R} (out), 41 INT3~{A1} (io), 42 INT2~{A0} (io), 43 VCC (power) hidden to VCC, 44 INT1 (in), 45 INT0 (in), 46 NMI (in), 47 TEST (in), 48 LOCK (hiz), 49 SRDY (in), 50 HOLD (in), 51 HLDA (out), 52 S0 (hiz), 53 S1 (hiz), 54 S2 (hiz), 55 ARDY (in), 56 CLKOUT (out), 57 RESET (out), 58 X2 (in), 59 X1 (in), 60 GND (power) hidden to GND, 61 ALEQS0 (out), 62 RDQSMD (hiz), 63 ~{WR}/QS1 (hiz), 64 S7 (hiz), 65 A19/S6 (hiz), 66 A18/S5 (hiz), 67 A17/S4 (hiz), 68 A16/S3 (hiz)

## 80286
designator U?
footprint JEDECA-68
pins: 1 BHE (hiz), 4 S1 (hiz), 5 S0 (hiz), 6 PEACK (out), 7 A23 (hiz), 8 A22 (hiz), 9 GND (power) hidden to GND, 10 A21 (hiz), 11 A20 (hiz), 12 A19 (hiz), 13 A18 (hiz), 14 A17 (hiz), 15 A16 (hiz), 16 A15 (hiz), 17 A14 (hiz), 18 A13 (hiz), 19 A12 (hiz), 20 A11 (hiz), 21 A10 (hiz), 22 A9 (hiz), 23 A8 (hiz), 24 A7 (hiz), 25 A6 (hiz), 26 A5 (hiz), 27 A4 (hiz), 28 A3 (hiz), 29 RESET (in), 30 VCC (power) hidden to VCC, 31 CLK (in), 32 A2 (hiz), 33 A1 (hiz), 34 A0 (hiz), 35 GND (power) hidden to GND, 36 D0 (hiz), 37 D8 (hiz), 38 D1 (hiz), 39 D9 (hiz), 40 D2 (hiz), 41 D10 (hiz), 42 D3 (hiz), 43 D11 (hiz), 44 D4 (hiz), 45 D12 (hiz), 46 D5 (hiz), 47 D13 (hiz), 48 D6 (hiz), 49 D14 (hiz), 50 D7 (hiz), 51 D15 (hiz), 52 CAP (in), 53 ERROR (in), 54 BUSY (in), 57 INTR (in), 59 NMI (in), 60 GND (power) hidden to GND, 61 PEREQ (in), 62 VCC (power) hidden to VCC, 63 READY (in), 64 HOLD (in), 65 HLDA (out), 66 COD~{INA} (hiz), 67 M/~{IO} (hiz), 68 LOCK (hiz)

## 82062
designator U?
footprint DIP-40
pins: 1 BCS (out), 2 BCR (out), 3 INTRQ (out), 5 RESET (in), 6 RD (io), 7 WR (io), 8 CS (in), 9 A0 (in), 10 A1 (in), 11 A2 (in), 12 DB7 (hiz), 13 DB6 (hiz), 14 DB5 (hiz), 15 DB4 (hiz), 16 DB3 (hiz), 17 DB2 (hiz), 18 DB1 (hiz), 19 DB0 (hiz), 20 GND (power) hidden to GND, 21 WRDATA (out), 22 LATE (out), 23 EARLY (out), 24 WRGATE (out), 25 WRCLK (in), 26 DIR (out), 27 STEP (out), 28 DRDY (in), 29 INDEX (in), 30 WRFLT (in), 31 TRK000 (in), 32 SC (in), 33 RWC (out), 34 DRUN (in), 35 BRDY (in), 36 BDRQ (out), 37 RDDATA (in), 38 RDGATE (out), 39 RDCLK (in), 40 VCC (power) hidden to VCC

## 82284
designator U?
footprint DIP-18
pins: 1 ARDY (in), 2 SRDY (in), 3 SRDYEN (in), 4 READY (oc), 5 EFI (in), 6 F/~{C} (in), 7 X1 (in), 8 X2 (in), 9 GND (power) hidden to GND, 10 CLK (out), 11 RES (in), 12 RESET (out), 13 PCLK (out), 15 S0 (in), 16 S1 (in), 17 ARDYEN (in), 18 VCC (power) hidden to VCC

## 82288
designator U?
footprint DIP-20
pins: 1 READY (in), 2 CLK (in), 3 S1 (in), 4 MCE (out), 5 ALE (out), 6 MB (in), 7 CMDLY (in), 8 MRDC (out), 9 MWTC (out), 10 GND (power) hidden to GND, 11 IOWC (out), 12 IORC (out), 13 INTA (out), 14 CENL (in), 15 CEN~{AEN} (in), 16 DEN (out), 17 DT/~{R} (out), 18 M/~{IO} (in), 19 S0 (in), 20 VCC (power) hidden to VCC

## 82501
designator U?
footprint DIP-20
pins: 1 C1 (in), 2 C2 (in), 3 LPBK (in), 4 RCV (in), 5 RCV (in), 6 CRS (out), 7 CDT (out), 8 RxC (out), 9 RxD (out), 10 GND (power) hidden to GND, 11 CLSN (in), 12 CLSN (in), 13 X2 (in), 14 X1 (in), 15 TEN (in), 16 TxC (out), 17 TxD (in), 18 TRMT (out), 19 TRMT (out), 20 VCC (power) hidden to VCC

## 82586
designator U?
footprint DIP-48
pins: 1 A20 (hiz), 2 A19/S6 (hiz), 3 A18 (hiz), 4 A17 (hiz), 5 A16 (hiz), 6 AD15 (hiz), 7 AD14 (hiz), 8 AD13 (hiz), 9 AD12 (hiz), 10 AD11 (hiz), 11 AD10 (hiz), 12 GND (power) hidden to GND, 13 AD9 (hiz), 14 AD8 (hiz), 15 AD7 (hiz), 16 AD6 (hiz), 17 AD5 (hiz), 18 AD4 (hiz), 19 AD3 (hiz), 20 AD2 (hiz), 21 AD1 (hiz), 22 AD0 (hiz), 23 RxC (in), 24 GND (power) hidden to GND, 25 RxD (in), 26 TxC (in), 27 TxD (out), 28 RTS (out), 29 CTS (in), 30 CDT (in), 31 CRS (in), 32 CLK (in), 33 MN/~{MX} (in), 34 RESET (in), 35 CA (in), 36 VCC (power) hidden to VCC, 37 A/SRDY (in), 38 INT (out), 39 RDY,~{DE} (in), 40 ~{S0},~{DEN} (hiz), 41 ~{S1},DT~{R} (hiz), 42 HLDA (in), 43 HOLD (out), 44 BHE (hiz), 45 A23,~{WR} (hiz), 46 A22,~{RD} (hiz), 47 A21 (hiz), 48 VCC (power) hidden to VCC

## 82720
designator U?
footprint DIP-40
pins: 1 2*WCLK (in), 2 VCC (power) hidden to VCC, 2 DBIN (out), 3 HSYNC (out), 4 V/EXTS (io), 5 BLANK (out), 6 ~{RAS}ALE (out), 7 DREQ (out), 8 DACK (in), 9 RD (in), 10 WR (in), 11 A0 (in), 12 DB0 (hiz), 13 DB1 (hiz), 14 DB2 (hiz), 15 DB3 (hiz), 16 DB4 (hiz), 17 DB5 (hiz), 18 DB6 (hiz), 19 DB7 (hiz), 20 GND (power) hidden to GND, 21 LPEN (in), 22 AD0 (io), 23 AD1 (io), 24 AD2 (io), 25 AD3 (io), 26 AD4 (io), 27 AD5 (io), 28 AD6 (io), 29 AD7 (io), 30 AD8 (io), 31 AD9 (io), 32 AD10 (io), 33 AD11 (io), 34 AD12 (io), 35 AD13 (io), 36 AD14 (io), 37 AD15 (io), 38 A16 (out), 39 A17 (out)


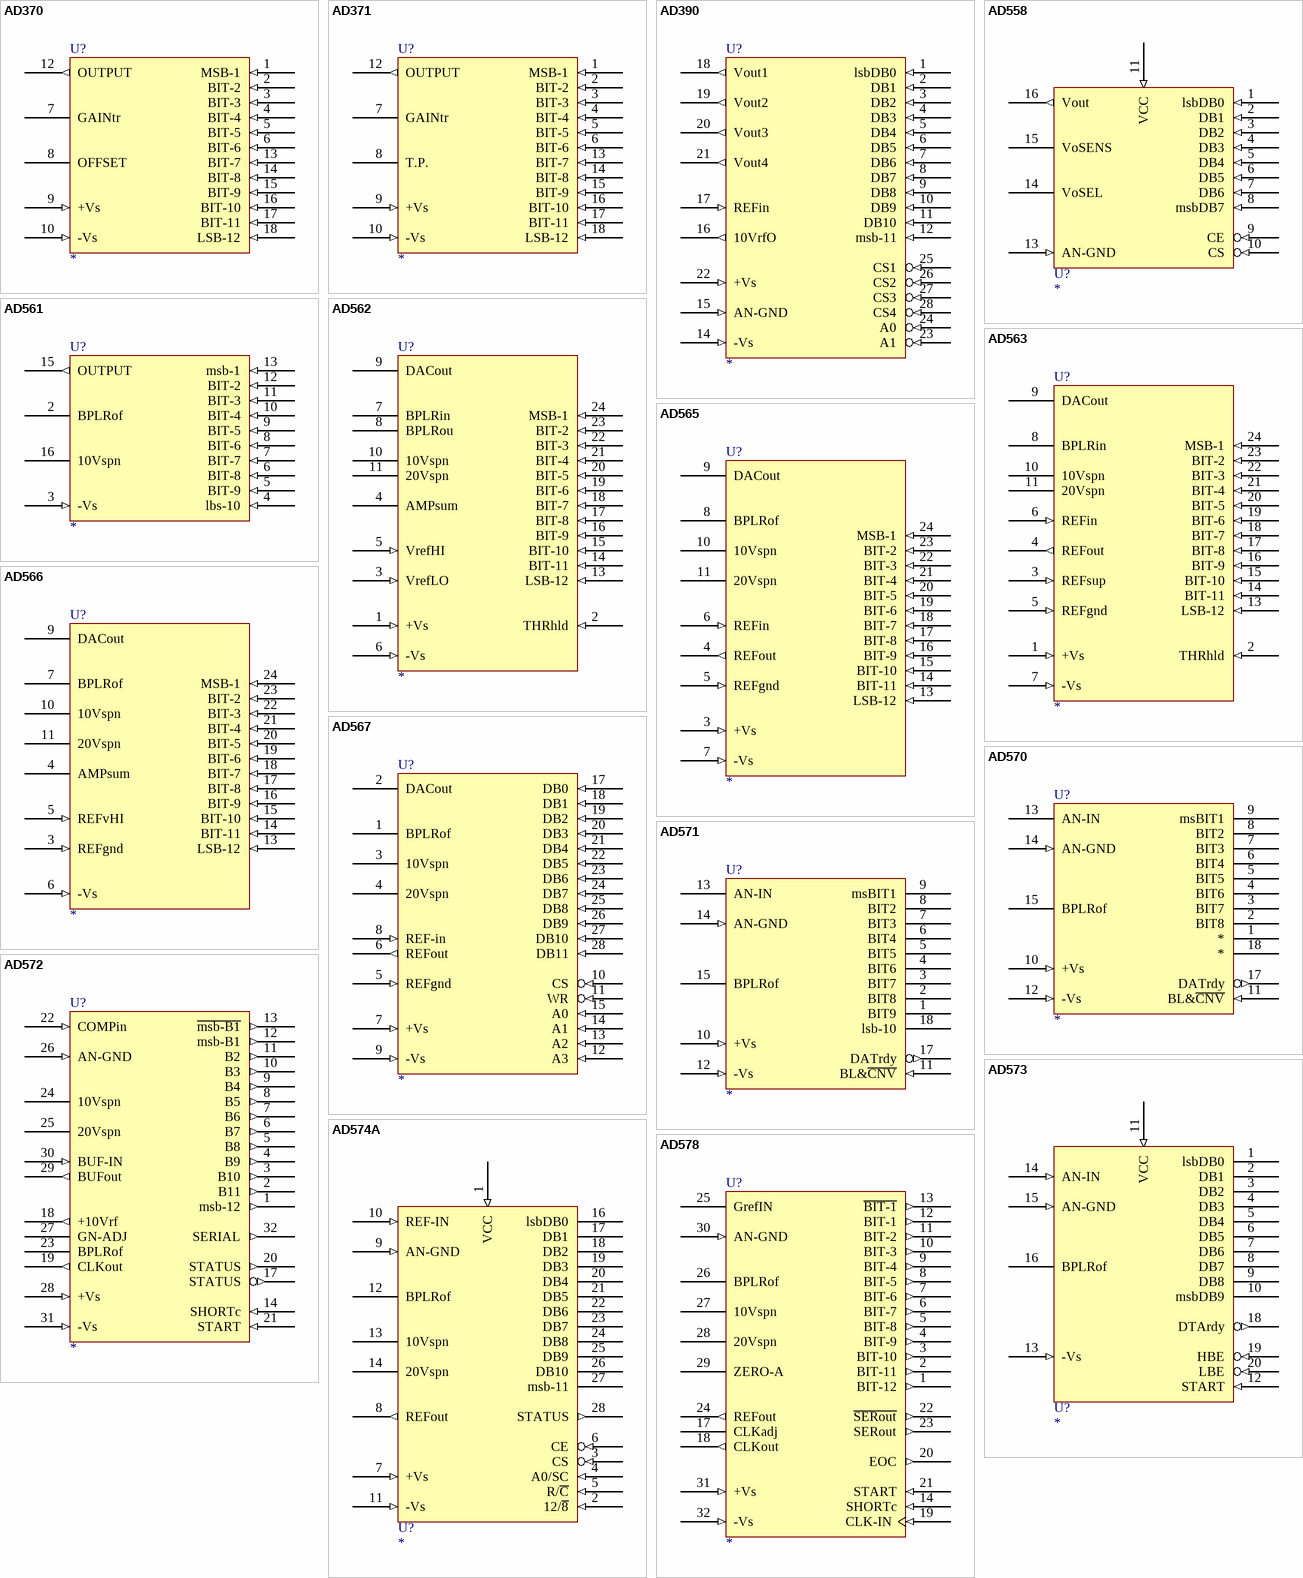
[diagram p42: symbols AD370 to AD578]

## AD370
designator U?
footprint DIP-18
pins: 1 MSB-1 (in), 2 BIT-2 (in), 3 BIT-3 (in), 4 BIT-4 (in), 5 BIT-5 (in), 6 BIT-6 (in), 7 GAINtr, 8 OFFSET, 9 +Vs (in), 10 -Vs (in), 11 GND (power) hidden to GND, 12 OUTPUT (out), 13 BIT-7 (in), 14 BIT-8 (in), 15 BIT-9 (in), 16 BIT-10 (in), 17 BIT-11 (in), 18 LSB-12 (in)

## AD371
designator U?
footprint DIP-18
pins: 1 MSB-1 (in), 2 BIT-2 (in), 3 BIT-3 (in), 4 BIT-4 (in), 5 BIT-5 (in), 6 BIT-6 (in), 7 GAINtr, 8 T.P., 9 +Vs (in), 10 -Vs (in), 11 GND (power) hidden to GND, 12 OUTPUT (out), 13 BIT-7 (in), 14 BIT-8 (in), 15 BIT-9 (in), 16 BIT-10 (in), 17 BIT-11 (in), 18 LSB-12 (in)

## AD390
designator U?
footprint HY28
pins: 1 lsbDB0 (in), 2 DB1 (in), 3 DB2 (in), 4 DB3 (in), 5 DB4 (in), 6 DB5 (in), 7 DB6 (in), 8 DB7 (in), 9 DB8 (in), 10 DB9 (in), 11 DB10 (in), 12 msb-11 (in), 13 GND (power) hidden to GND, 14 -Vs (in), 15 AN-GND (in), 16 10VrfO (out), 17 REFin (in), 18 Vout1 (out), 19 Vout2 (out), 20 Vout3 (out), 21 Vout4 (out), 22 +Vs (in), 23 A1 (in), 24 A0 (in), 25 CS1 (in), 26 CS2 (in), 27 CS3 (in), 28 CS4 (in)

## AD558
designator U?
footprint DIP-16
pins: 1 lsbDB0 (in), 2 DB1 (in), 3 DB2 (in), 4 DB3 (in), 5 DB4 (in), 6 DB5 (in), 7 DB6 (in), 8 msbDB7 (in), 9 CE (in), 10 CS (in), 11 VCC (in), 12 GND (power) hidden to GND, 13 AN-GND (in), 14 VoSEL, 15 VoSENS, 16 Vout (out)

## AD561
designator U?
footprint DIP-16
pins: 1 GND (power) hidden to GND, 2 BPLRof, 3 -Vs (in), 4 lbs-10 (in), 5 BIT-9 (in), 6 BIT-8 (in), 7 BIT-7 (in), 8 BIT-6 (in), 9 BIT-5 (in), 10 BIT-4 (in), 11 BIT-3 (in), 12 BIT-2 (in), 13 msb-1 (in), 14 VCC (power) hidden to VCC, 15 OUTPUT (out), 16 10Vspn

## AD562
designator U?
footprint DIP-24
pins: 1 +Vs (in), 2 THRhld (in), 3 VrefLO (in), 4 AMPsum, 5 VrefHI (in), 6 -Vs (in), 7 BPLRin, 8 BPLRou, 9 DACout, 10 10Vspn, 11 20Vspn, 12 GND (power) hidden to GND, 13 LSB-12 (in), 14 BIT-11 (in), 15 BIT-10 (in), 16 BIT-9 (in), 17 BIT-8 (in), 18 BIT-7 (in), 19 BIT-6 (in), 20 BIT-5 (in), 21 BIT-4 (in), 22 BIT-3 (in), 23 BIT-2 (in), 24 MSB-1 (in)

## AD563
designator U?
footprint DIP-24
pins: 1 +Vs (in), 2 THRhld (in), 3 REFsup (in), 4 REFout (out), 5 REFgnd (in), 6 REFin (in), 7 -Vs (in), 8 BPLRin, 9 DACout, 10 10Vspn, 11 20Vspn, 12 GND (power) hidden to GND, 13 LSB-12 (in), 14 BIT-11 (in), 15 BIT-10 (in), 16 BIT-9 (in), 17 BIT-8 (in), 18 BIT-7 (in), 19 BIT-6 (in), 20 BIT-5 (in), 21 BIT-4 (in), 22 BIT-3 (in), 23 BIT-2 (in), 24 MSB-1 (in)

## AD565
designator U?
footprint DIP-24
pins: 3 +Vs (in), 4 REFout (out), 5 REFgnd (in), 6 REFin (in), 7 -Vs (in), 8 BPLRof, 9 DACout, 10 10Vspn, 11 20Vspn, 12 GND (power) hidden to GND, 13 LSB-12 (in), 14 BIT-11 (in), 15 BIT-10 (in), 16 BIT-9 (in), 17 BIT-8 (in), 18 BIT-7 (in), 19 BIT-6 (in), 20 BIT-5 (in), 21 BIT-4 (in), 22 BIT-3 (in), 23 BIT-2 (in), 24 MSB-1 (in)

## AD566
designator U?
footprint DIP-24
pins: 3 REFgnd (in), 4 AMPsum, 5 REFvHI (in), 6 -Vs (in), 7 BPLRof, 9 DACout, 10 10Vspn, 11 20Vspn, 12 GND (power) hidden to GND, 13 LSB-12 (in), 14 BIT-11 (in), 15 BIT-10 (in), 16 BIT-9 (in), 17 BIT-8 (in), 18 BIT-7 (in), 19 BIT-6 (in), 20 BIT-5 (in), 21 BIT-4 (in), 22 BIT-3 (in), 23 BIT-2 (in), 24 MSB-1 (in)

## AD567
designator U?
footprint DIP-28
pins: 1 BPLRof, 2 DACout, 3 10Vspn, 4 20Vspn, 5 REFgnd (in), 6 REFout (out), 7 +Vs (in), 8 REF-in (in), 9 -Vs (in), 10 CS (in), 11 WR (in), 12 A3 (in), 13 A2 (in), 14 A1 (in), 15 A0 (in), 16 GND (power) hidden to GND, 17 DB0 (in), 18 DB1 (in), 19 DB2 (in), 20 DB3 (in), 21 DB4 (in), 22 DB5 (in), 23 DB6 (in), 24 DB7 (in), 25 DB8 (in), 26 DB9 (in), 27 DB10 (in), 28 DB11 (in)

## AD570
designator U?
footprint DIP-18
pins: 1 * (hiz), 2 BIT8 (hiz), 3 BIT7 (hiz), 4 BIT6 (hiz), 5 BIT5 (hiz), 6 BIT4 (hiz), 7 BIT3 (hiz), 8 BIT2 (hiz), 9 msBIT1 (hiz), 10 +Vs (in), 11 BL&~{CNV} (in), 12 -Vs (in), 13 AN-IN, 14 AN-GND (in), 15 BPLRof, 16 GND (power) hidden to GND, 17 DATrdy (out), 18 * (hiz)

## AD571
designator U?
footprint DIP-18
pins: 1 BIT9 (hiz), 2 BIT8 (hiz), 3 BIT7 (hiz), 4 BIT6 (hiz), 5 BIT5 (hiz), 6 BIT4 (hiz), 7 BIT3 (hiz), 8 BIT2 (hiz), 9 msBIT1 (hiz), 10 +Vs (in), 11 BL&~{CNV} (in), 12 -Vs (in), 13 AN-IN, 14 AN-GND (in), 15 BPLRof, 16 GND (power) hidden to GND, 17 DATrdy (out), 18 lsb-10 (hiz)

## AD572
designator U?
footprint DIP-32
pins: 1 msb-12 (out), 2 B11 (out), 3 B10 (out), 4 B9 (out), 5 B8 (out), 6 B7 (out), 7 B6 (out), 8 B5 (out), 9 B4 (out), 10 B3 (out), 11 B2 (out), 12 msb-B1 (out), 13 ~{msb-B1} (out), 14 SHORTc (in), 15 GND (power) hidden to GND, 16 VCC (power) hidden to VCC, 17 STATUS (out), 18 +10Vrf (out), 19 CLKout (out), 20 STATUS (out), 21 START (in), 22 COMPin (in), 23 BPLRof, 24 10Vspn, 25 20Vspn, 26 AN-GND (in), 27 GN-ADJ, 28 +Vs (in), 29 BUFout (out), 30 BUF-IN (in), 31 -Vs (in), 32 SERIAL (out)

## AD573
designator U?
footprint DIP-20
pins: 1 lsbDB0 (hiz), 2 DB1 (hiz), 3 DB2 (hiz), 4 DB3 (hiz), 5 DB4 (hiz), 6 DB5 (hiz), 7 DB6 (hiz), 8 DB7 (hiz), 9 DB8 (hiz), 10 msbDB9 (hiz), 11 VCC (in), 12 START (in), 13 -Vs (in), 14 AN-IN (in), 15 AN-GND (in), 16 BPLRof, 17 GND (power) hidden to GND, 18 DTArdy (out), 19 HBE (in), 20 LBE (in)

## AD574A
designator U?
footprint DIP-28
pins: 1 VCC (in), 2 12/~{8} (in), 3 CS (in), 4 A0/SC (in), 5 R/~{C} (in), 6 CE (in), 7 +Vs (in), 8 REFout (out), 9 AN-GND (in), 10 REF-IN (in), 11 -Vs (in), 12 BPLRof, 13 10Vspn, 14 20Vspn, 15 GND (power) hidden to GND, 16 lsbDB0 (hiz), 17 DB1 (hiz), 18 DB2 (hiz), 19 DB3 (hiz), 20 DB4 (hiz), 21 DB5 (hiz), 22 DB6 (hiz), 23 DB7 (hiz), 24 DB8 (hiz), 25 DB9 (hiz), 26 DB10 (hiz), 27 msb-11 (hiz), 28 STATUS (out)

## AD578
designator U?
footprint DIP-32
pins: 1 BIT-12 (out), 2 BIT-11 (out), 3 BIT-10 (out), 4 BIT-9 (out), 5 BIT-8 (out), 6 BIT-7 (out), 7 BIT-6 (out), 8 BIT-5 (out), 9 BIT-4 (out), 10 BIT-3 (out), 11 BIT-2 (out), 12 BIT-1 (out), 13 ~{BIT-1} (out), 14 SHORTc (in), 15 GND (power) hidden to GND, 16 VCC (power) hidden to VCC, 17 CLKadj, 18 CLKout (out), 19 CLK-IN (in), 20 EOC (out), 21 START (in), 22 ~{SERout} (out), 23 SERout (out), 24 REFout (out), 25 GrefIN, 26 BPLRof, 27 10Vspn, 28 20Vspn, 29 ZERO-A, 30 AN-GND (in), 31 +Vs (in), 32 -Vs (in)

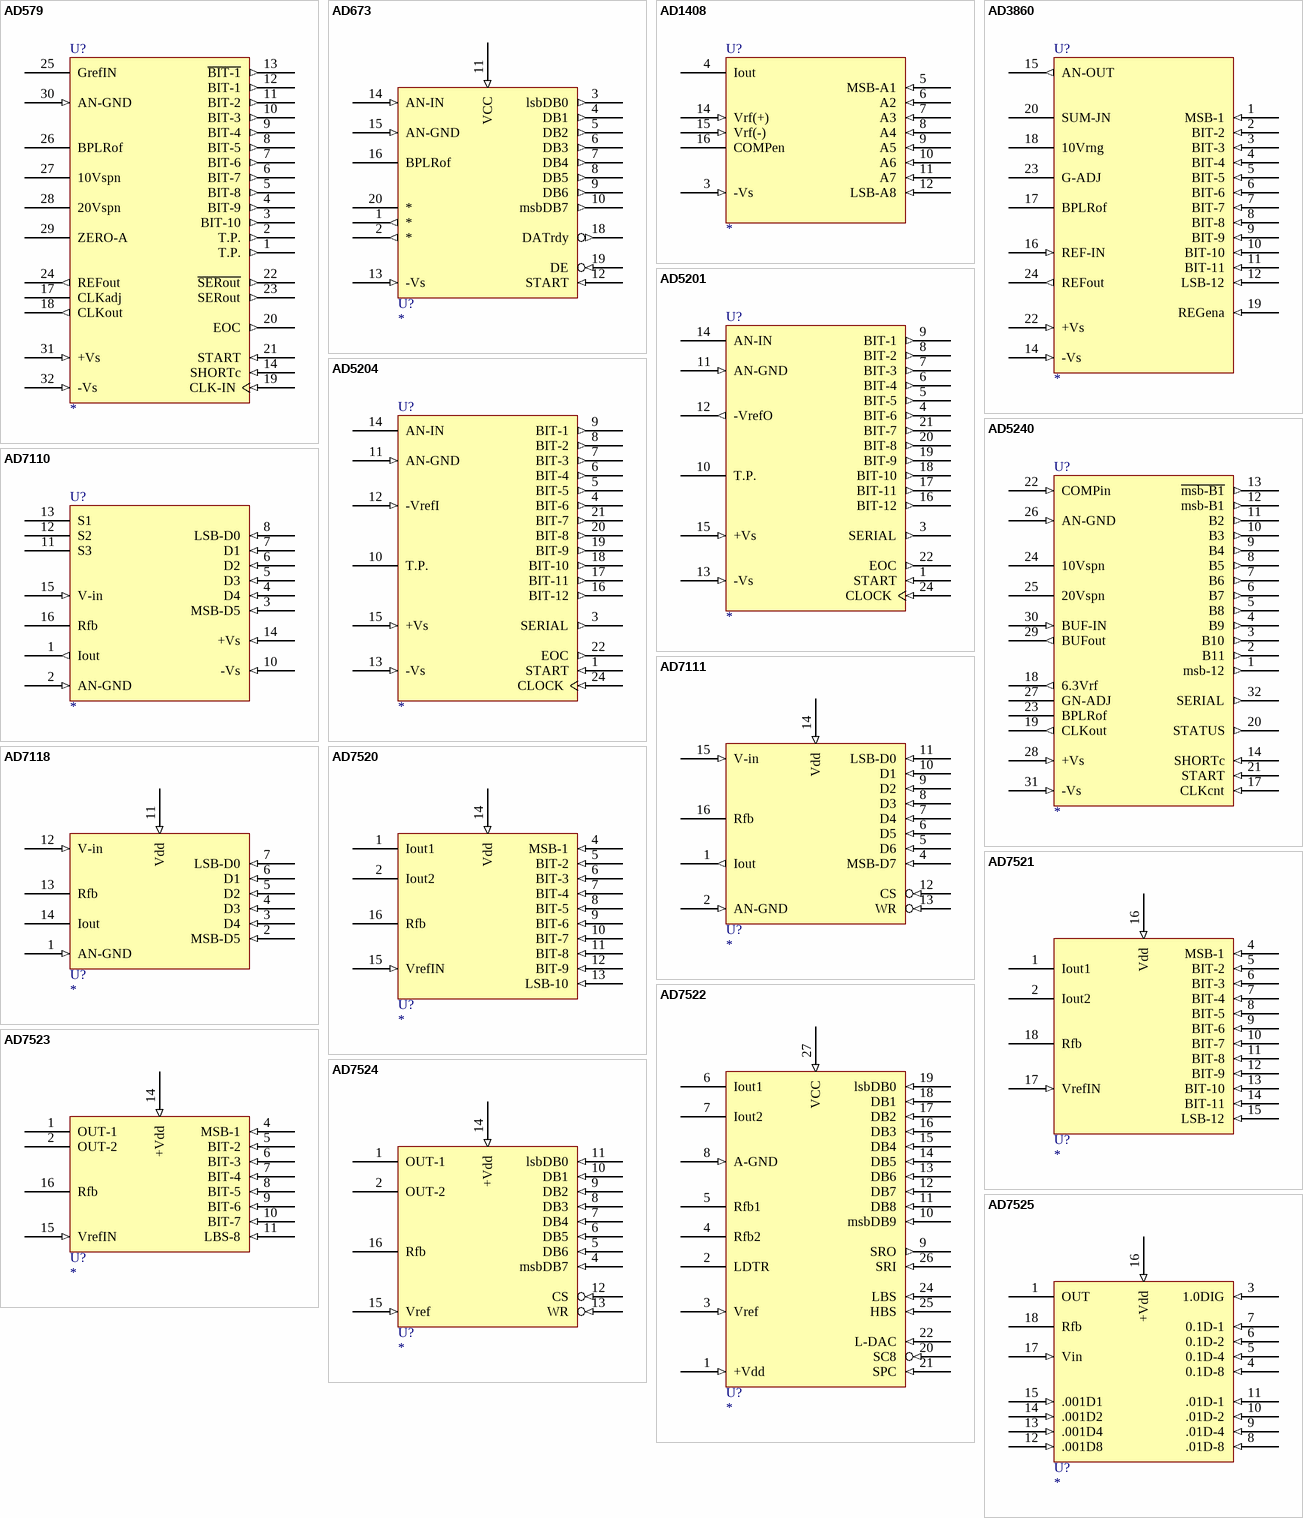
[diagram p43: symbols AD579 to AD7525]

## AD579
designator U?
footprint DIP-32
pins: 1 T.P. (out), 2 T.P. (out), 3 BIT-10 (out), 4 BIT-9 (out), 5 BIT-8 (out), 6 BIT-7 (out), 7 BIT-6 (out), 8 BIT-5 (out), 9 BIT-4 (out), 10 BIT-3 (out), 11 BIT-2 (out), 12 BIT-1 (out), 13 ~{BIT-1} (out), 14 SHORTc (in), 15 GND (power) hidden to GND, 16 VCC (power) hidden to VCC, 17 CLKadj, 18 CLKout (out), 19 CLK-IN (in), 20 EOC (out), 21 START (in), 22 ~{SERout} (out), 23 SERout (out), 24 REFout (out), 25 GrefIN, 26 BPLRof, 27 10Vspn, 28 20Vspn, 29 ZERO-A, 30 AN-GND (in), 31 +Vs (in), 32 -Vs (in)

## AD673
designator U?
footprint DIP-20
pins: 1 * (out), 2 * (out), 3 lsbDB0 (out), 4 DB1 (out), 5 DB2 (out), 6 DB3 (out), 7 DB4 (out), 8 DB5 (out), 9 DB6 (out), 10 msbDB7 (out), 11 VCC (in), 12 START (in), 13 -Vs (in), 14 AN-IN (in), 15 AN-GND (in), 16 BPLRof, 17 GND (power) hidden to GND, 18 DATrdy (out), 19 DE (in), 20 *

## AD1408
designator U?
footprint DIP-16
pins: 2 GND (power) hidden to GND, 3 -Vs (in), 4 Iout, 5 MSB-A1 (in), 6 A2 (in), 7 A3 (in), 8 A4 (in), 9 A5 (in), 10 A6 (in), 11 A7 (in), 12 LSB-A8 (in), 13 VCC (power) hidden to VCC, 14 Vrf(+) (in), 15 Vrf(-) (in), 16 COMPen

## AD3860
designator U?
footprint DIP-24
pins: 1 MSB-1 (in), 2 BIT-2 (in), 3 BIT-3 (in), 4 BIT-4 (in), 5 BIT-5 (in), 6 BIT-6 (in), 7 BIT-7 (in), 8 BIT-8 (in), 9 BIT-9 (in), 10 BIT-10 (in), 11 BIT-11 (in), 12 LSB-12 (in), 13 VCC (power) hidden to VCC, 14 -Vs (in), 15 AN-OUT (out), 16 REF-IN (in), 17 BPLRof, 18 10Vrng, 19 REGena (in), 20 SUM-JN, 21 GND (power) hidden to GND, 22 +Vs (in), 23 G-ADJ, 24 REFout (out)

## AD5201
designator U?
footprint DIP-24
pins: 1 START (in), 2 VCC (power) hidden to VCC, 3 SERIAL (out), 4 BIT-6 (out), 5 BIT-5 (out), 6 BIT-4 (out), 7 BIT-3 (out), 8 BIT-2 (out), 9 BIT-1 (out), 10 T.P., 11 AN-GND (in), 12 -VrefO (out), 13 -Vs (in), 14 AN-IN, 15 +Vs (in), 16 BIT-12 (out), 17 BIT-11 (out), 18 BIT-10 (out), 19 BIT-9 (out), 20 BIT-8 (out), 21 BIT-7 (out), 22 EOC (out), 23 GND (power) hidden to GND, 24 CLOCK (in)

## AD5204
designator U?
footprint DIP-24
pins: 1 START (in), 2 VCC (power) hidden to VCC, 3 SERIAL (out), 4 BIT-6 (out), 5 BIT-5 (out), 6 BIT-4 (out), 7 BIT-3 (out), 8 BIT-2 (out), 9 BIT-1 (out), 10 T.P., 11 AN-GND (in), 12 -VrefI (in), 13 -Vs (in), 14 AN-IN, 15 +Vs (in), 16 BIT-12 (out), 17 BIT-11 (out), 18 BIT-10 (out), 19 BIT-9 (out), 20 BIT-8 (out), 21 BIT-7 (out), 22 EOC (out), 23 GND (power) hidden to GND, 24 CLOCK (in)

## AD5240
designator U?
footprint DIP-32
pins: 1 msb-12 (out), 2 B11 (out), 3 B10 (out), 4 B9 (out), 5 B8 (out), 6 B7 (out), 7 B6 (out), 8 B5 (out), 9 B4 (out), 10 B3 (out), 11 B2 (out), 12 msb-B1 (out), 13 ~{msb-B1} (out), 14 SHORTc (in), 15 GND (power) hidden to GND, 16 VCC (power) hidden to VCC, 17 CLKcnt (in), 18 6.3Vrf (out), 19 CLKout (out), 20 STATUS (out), 21 START (in), 22 COMPin (in), 23 BPLRof, 24 10Vspn, 25 20Vspn, 26 AN-GND (in), 27 GN-ADJ, 28 +Vs (in), 29 BUFout (out), 30 BUF-IN (in), 31 -Vs (in), 32 SERIAL (out)

## AD7110
designator U?
footprint DIP-16
pins: 1 Iout (out), 2 AN-GND (in), 3 MSB-D5 (in), 4 D4 (in), 5 D3 (in), 6 D2 (in), 7 D1 (in), 8 LSB-D0 (in), 9 GND (power) hidden to GND, 10 -Vs (in), 11 S3, 12 S2, 13 S1, 14 +Vs (in), 15 V-in (in), 16 Rfb

## AD7111
designator U?
footprint DIP-16
pins: 1 Iout (out), 2 AN-GND (in), 3 GND (power) hidden to GND, 4 MSB-D7 (in), 5 D6 (in), 6 D5 (in), 7 D4 (in), 8 D3 (in), 9 D2 (in), 10 D1 (in), 11 LSB-D0 (in), 12 CS (in), 13 WR (in), 14 Vdd (in), 15 V-in (in), 16 Rfb

## AD7118
designator U?
footprint DIP-14
pins: 1 AN-GND (in), 2 MSB-D5 (in), 3 D4 (in), 4 D3 (in), 5 D2 (in), 6 D1 (in), 7 LSB-D0 (in), 8 GND (power) hidden to GND, 11 Vdd (in), 12 V-in (in), 13 Rfb, 14 Iout

## AD7520
designator U?
footprint DIP-16
pins: 1 Iout1, 2 Iout2, 3 GND (power) hidden to GND, 4 MSB-1 (in), 5 BIT-2 (in), 6 BIT-3 (in), 7 BIT-4 (in), 8 BIT-5 (in), 9 BIT-6 (in), 10 BIT-7 (in), 11 BIT-8 (in), 12 BIT-9 (in), 13 LSB-10 (in), 14 Vdd (in), 15 VrefIN (in), 16 Rfb

## AD7521
designator U?
footprint DIP-18
pins: 1 Iout1, 2 Iout2, 3 GND (power) hidden to GND, 4 MSB-1 (in), 5 BIT-2 (in), 6 BIT-3 (in), 7 BIT-4 (in), 8 BIT-5 (in), 9 BIT-6 (in), 10 BIT-7 (in), 11 BIT-8 (in), 12 BIT-9 (in), 13 BIT-10 (in), 14 BIT-11 (in), 15 LSB-12 (in), 16 Vdd (in), 17 VrefIN (in), 18 Rfb

## AD7522
designator U?
footprint DIP-28
pins: 1 +Vdd (in), 2 LDTR, 3 Vref (in), 4 Rfb2, 5 Rfb1, 6 Iout1, 7 Iout2, 8 A-GND (in), 9 SRO (out), 10 msbDB9 (in), 11 DB8 (in), 12 DB7 (in), 13 DB6 (in), 14 DB5 (in), 15 DB4 (in), 16 DB3 (in), 17 DB2 (in), 18 DB1 (in), 19 lsbDB0 (in), 20 SC8 (in), 21 SPC (in), 22 L-DAC (in), 24 LBS (in), 25 HBS (in), 26 SRI (in), 27 VCC (in), 28 GND (power) hidden to GND

## AD7523
designator U?
footprint DIP-16
pins: 1 OUT-1, 2 OUT-2, 3 GND (power) hidden to GND, 4 MSB-1 (in), 5 BIT-2 (in), 6 BIT-3 (in), 7 BIT-4 (in), 8 BIT-5 (in), 9 BIT-6 (in), 10 BIT-7 (in), 11 LBS-8 (in), 14 +Vdd (in), 15 VrefIN (in), 16 Rfb

## AD7524
designator U?
footprint DIP-16
pins: 1 OUT-1, 2 OUT-2, 3 GND (power) hidden to GND, 4 msbDB7 (in), 5 DB6 (in), 6 DB5 (in), 7 DB4 (in), 8 DB3 (in), 9 DB2 (in), 10 DB1 (in), 11 lsbDB0 (in), 12 CS (in), 13 WR (in), 14 +Vdd (in), 15 Vref (in), 16 Rfb

## AD7525
designator U?
footprint DIP-18
pins: 1 OUT, 2 GND (power) hidden to GND, 3 1.0DIG (in), 4 0.1D-8 (in), 5 0.1D-4 (in), 6 0.1D-2 (in), 7 0.1D-1 (in), 8 .01D-8 (in), 9 .01D-4 (in), 10 .01D-2 (in), 11 .01D-1 (in), 12 .001D8 (in), 13 .001D4 (in), 14 .001D2 (in), 15 .001D1 (in), 16 +Vdd (in), 17 Vin (in), 18 Rfb

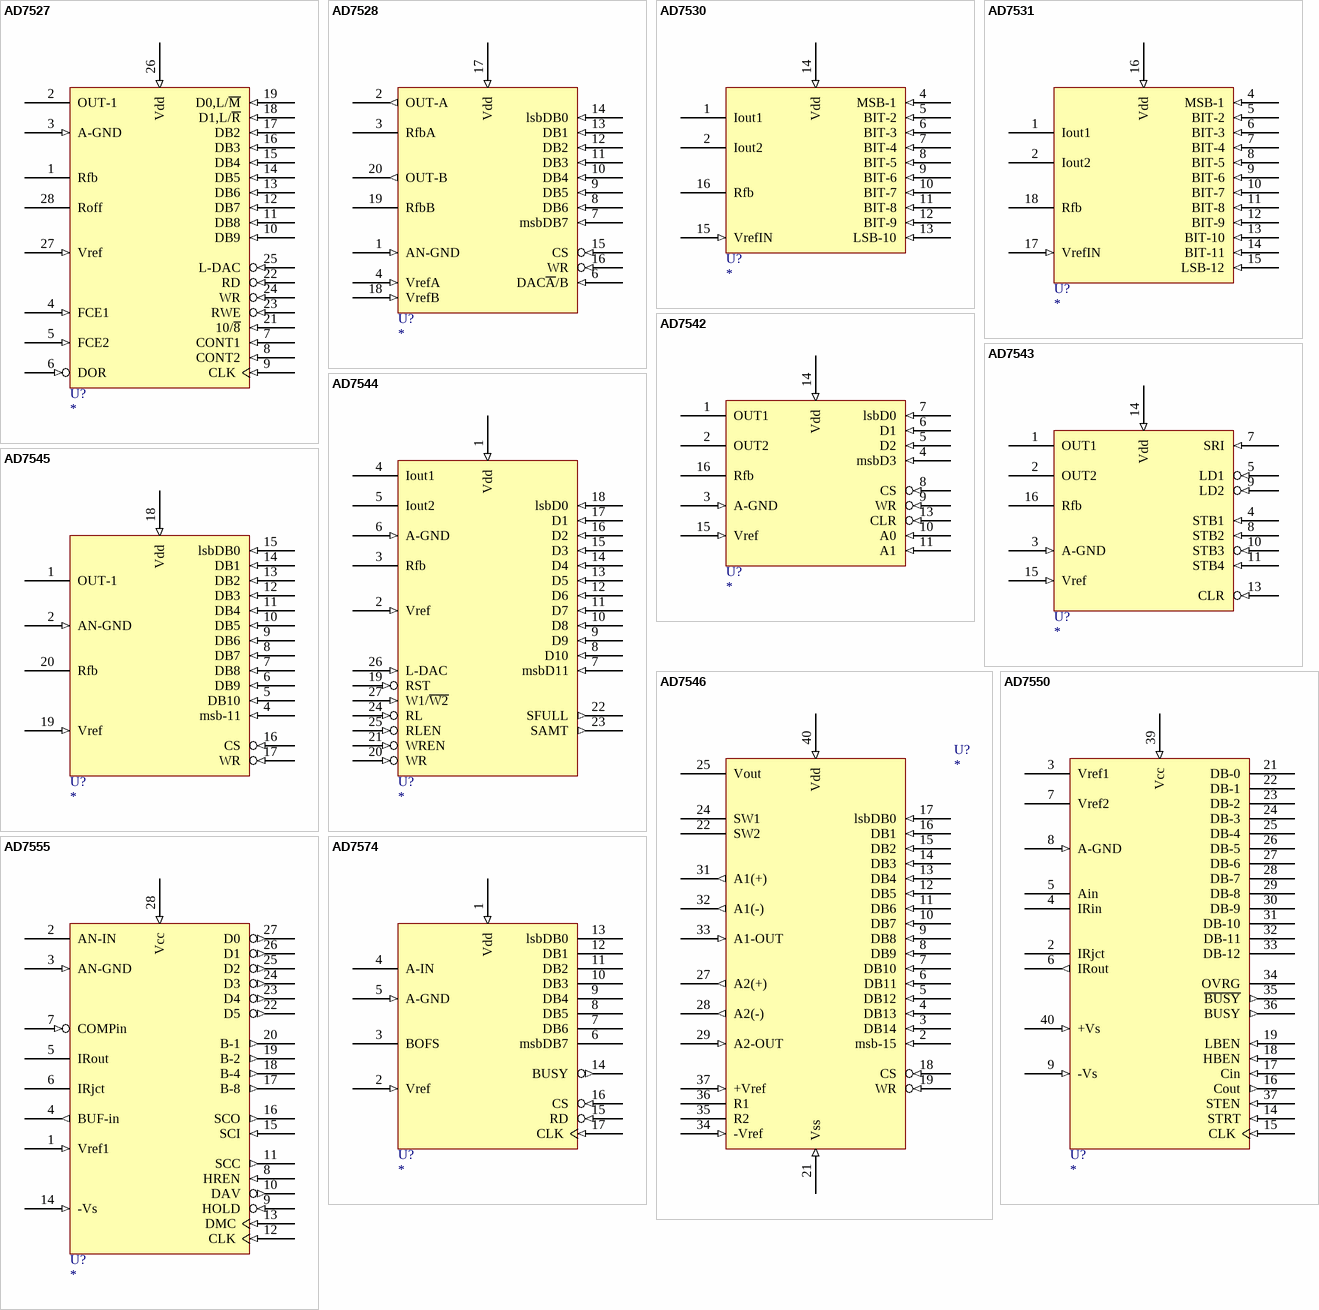
[diagram p44: symbols AD7527 to AD7574]

## AD7527
designator U?
footprint DIP-28
pins: 1 Rfb, 2 OUT-1, 3 A-GND (in), 4 FCE1 (in), 5 FCE2 (in), 6 DOR (in), 7 CONT1 (in), 8 CONT2 (in), 9 CLK (in), 10 DB9 (in), 11 DB8 (in), 12 DB7 (in), 13 DB6 (in), 14 DB5 (in), 15 DB4 (in), 16 DB3 (in), 17 DB2 (in), 18 D1,L/~{R} (in), 19 D0,L/~{M} (in), 20 GND (power) hidden to GND, 21 10/~{8} (in), 22 RD (in), 23 RWE (in), 24 WR (in), 25 L-DAC (in), 26 Vdd (in), 27 Vref (in), 28 Roff

## AD7528
designator U?
footprint DIP-20
pins: 1 AN-GND (in), 2 OUT-A (out), 3 RfbA, 4 VrefA (in), 5 GND (power) hidden to GND, 6 DAC~{A}/B (in), 7 msbDB7 (in), 8 DB6 (in), 9 DB5 (in), 10 DB4 (in), 11 DB3 (in), 12 DB2 (in), 13 DB1 (in), 14 lsbDB0 (in), 15 CS (in), 16 WR (in), 17 Vdd (in), 18 VrefB (in), 19 RfbB, 20 OUT-B (out)

## AD7530
designator U?
footprint DIP-16
pins: 1 Iout1, 2 Iout2, 3 GND (power) hidden to GND, 4 MSB-1 (in), 5 BIT-2 (in), 6 BIT-3 (in), 7 BIT-4 (in), 8 BIT-5 (in), 9 BIT-6 (in), 10 BIT-7 (in), 11 BIT-8 (in), 12 BIT-9 (in), 13 LSB-10 (in), 14 Vdd (in), 15 VrefIN (in), 16 Rfb

## AD7531
designator U?
footprint DIP-18
pins: 1 Iout1, 2 Iout2, 3 GND (power) hidden to GND, 4 MSB-1 (in), 5 BIT-2 (in), 6 BIT-3 (in), 7 BIT-4 (in), 8 BIT-5 (in), 9 BIT-6 (in), 10 BIT-7 (in), 11 BIT-8 (in), 12 BIT-9 (in), 13 BIT-10 (in), 14 BIT-11 (in), 15 LSB-12 (in), 16 Vdd (in), 17 VrefIN (in), 18 Rfb

## AD7542
designator U?
footprint DIP-16
pins: 1 OUT1, 2 OUT2, 3 A-GND (in), 4 msbD3 (in), 5 D2 (in), 6 D1 (in), 7 lsbD0 (in), 8 CS (in), 9 WR (in), 10 A0 (in), 11 A1 (in), 12 GND (power) hidden to GND, 13 CLR (in), 14 Vdd (in), 15 Vref (in), 16 Rfb

## AD7543
designator U?
footprint DIP-16
pins: 1 OUT1, 2 OUT2, 3 A-GND (in), 4 STB1 (in), 5 LD1 (in), 7 SRI (in), 8 STB2 (in), 9 LD2 (in), 10 STB3 (in), 11 STB4 (in), 12 GND (power) hidden to GND, 13 CLR (in), 14 Vdd (in), 15 Vref (in), 16 Rfb

## AD7544
designator U?
footprint DIP-28
pins: 1 Vdd (in), 2 Vref (in), 3 Rfb, 4 Iout1, 5 Iout2, 6 A-GND (in), 7 msbD11 (in), 8 D10 (in), 9 D9 (in), 10 D8 (in), 11 D7 (in), 12 D6 (in), 13 D5 (in), 14 D4 (in), 15 D3 (in), 16 D2 (in), 17 D1 (in), 18 lsbD0 (in), 19 RST (in), 20 WR (in), 21 WREN (in), 22 SFULL (out), 23 SAMT (out), 24 RL (in), 25 RLEN (in), 26 L-DAC (in), 27 W1/~{W2} (in), 28 GND (power) hidden to GND

## AD7545
designator U?
footprint DIP-20
pins: 1 OUT-1, 2 AN-GND (in), 3 GND (power) hidden to GND, 4 msb-11 (in), 5 DB10 (in), 6 DB9 (in), 7 DB8 (in), 8 DB7 (in), 9 DB6 (in), 10 DB5 (in), 11 DB4 (in), 12 DB3 (in), 13 DB2 (in), 14 DB1 (in), 15 lsbDB0 (in), 16 CS (in), 17 WR (in), 18 Vdd (in), 19 Vref (in), 20 Rfb

## AD7546
designator U?
footprint DIP-40
pins: 2 msb-15 (in), 3 DB14 (in), 4 DB13 (in), 5 DB12 (in), 6 DB11 (in), 7 DB10 (in), 8 DB9 (in), 9 DB8 (in), 10 DB7 (in), 11 DB6 (in), 12 DB5 (in), 13 DB4 (in), 14 DB3 (in), 15 DB2 (in), 16 DB1 (in), 17 lsbDB0 (in), 18 CS (in), 19 WR (in), 20 GND (power) hidden to GND, 21 Vss (in), 22 SW2, 24 SW1, 25 Vout, 27 A2(+) (out), 28 A2(-) (out), 29 A2-OUT (in), 31 A1(+) (out), 32 A1(-) (out), 33 A1-OUT (in), 34 -Vref (in), 35 R2, 36 R1, 37 +Vref (in), 40 Vdd (in)

## AD7550
designator U?
footprint DIP-40
pins: 2 IRjct, 3 Vref1, 4 IRin, 5 Ain, 6 IRout (out), 7 Vref2, 8 A-GND (in), 9 -Vs (in), 14 STRT (in), 15 CLK (in), 16 Cout (out), 17 Cin (in), 18 HBEN (in), 19 LBEN (in), 20 GND (power) hidden to GND, 21 DB-0 (hiz), 22 DB-1 (hiz), 23 DB-2 (hiz), 24 DB-3 (hiz), 25 DB-4 (hiz), 26 DB-5 (hiz), 27 DB-6 (hiz), 28 DB-7 (hiz), 29 DB-8 (hiz), 30 DB-9 (hiz), 31 DB-10 (hiz), 32 DB-11 (hiz), 33 DB-12 (hiz), 34 OVRG (hiz), 35 ~{BUSY} (out), 36 BUSY (out), 37 STEN (in), 39 Vcc (in), 40 +Vs (in)

## AD7555
designator U?
footprint DIP-28
pins: 1 Vref1 (in), 2 AN-IN, 3 AN-GND (in), 4 BUF-in (out), 5 IRout, 6 IRjct, 7 COMPin (in), 8 HREN (in), 9 HOLD (in), 10 DAV (out), 11 SCC (out), 12 CLK (in), 13 DMC (in), 14 -Vs (in), 15 SCI (in), 16 SCO (out), 17 B-8 (out), 18 B-4 (out), 19 B-2 (out), 20 B-1 (out), 21 GND (power) hidden to GND, 22 D5 (out), 23 D4 (out), 24 D3 (out), 25 D2 (out), 26 D1 (out), 27 D0 (out), 28 Vcc (in)

## AD7574
designator U?
footprint DIP-18
pins: 1 Vdd (in), 2 Vref (in), 3 BOFS, 4 A-IN, 5 A-GND (in), 6 msbDB7 (hiz), 7 DB6 (hiz), 8 DB5 (hiz), 9 DB4 (hiz), 10 DB3 (hiz), 11 DB2 (hiz), 12 DB1 (hiz), 13 lsbDB0 (hiz), 14 BUSY (out), 15 RD (in), 16 CS (in), 17 CLK (in), 18 GND (power) hidden to GND

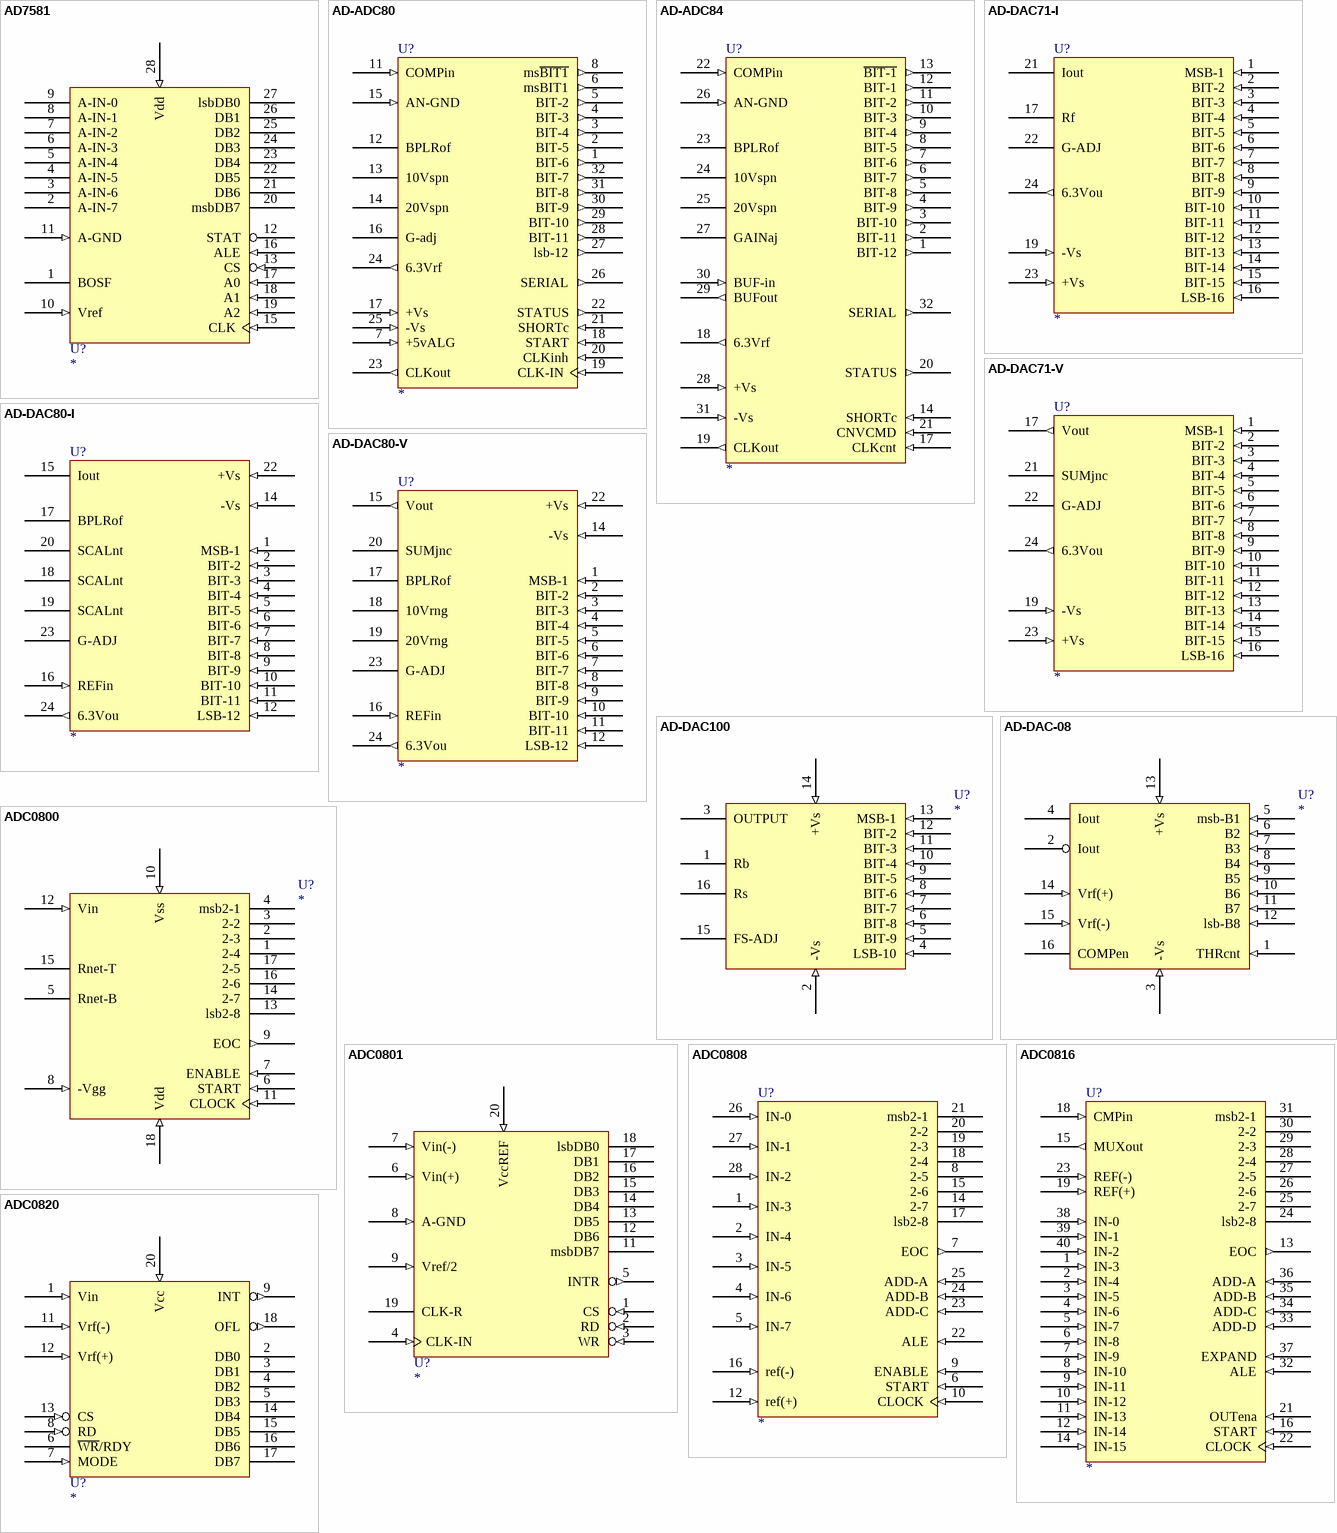
[diagram p45: symbols AD7581 to ADC0820]

## AD7581
designator U?
footprint DIP-18
pins: 1 BOSF, 2 A-IN-7, 3 A-IN-6, 4 A-IN-5, 5 A-IN-4, 6 A-IN-3, 7 A-IN-2, 8 A-IN-1, 9 A-IN-0, 10 Vref (in), 11 A-GND (in), 12 STAT, 13 CS (in), 14 GND (power) hidden to GND, 15 CLK (in), 16 ALE (in), 17 A0 (in), 18 A1 (in), 19 A2 (in), 20 msbDB7 (hiz), 21 DB6 (hiz), 22 DB5 (hiz), 23 DB4 (hiz), 24 DB3 (hiz), 25 DB2 (hiz), 26 DB1 (hiz), 27 lsbDB0 (hiz), 28 Vdd (in)

## AD-ADC80
designator U?
footprint DIP-32
pins: 1 BIT-6 (out), 2 BIT-5 (out), 3 BIT-4 (out), 4 BIT-3 (out), 5 BIT-2 (out), 6 msBIT1 (out), 7 +5vALG (in), 8 ms~{BIT1} (out), 9 VCC (power) hidden to VCC, 10 GND (power) hidden to GND, 11 COMPin (in), 12 BPLRof, 13 10Vspn, 14 20Vspn, 15 AN-GND (in), 16 G-adj, 17 +Vs (in), 18 START (in), 19 CLK-IN (in), 20 CLKinh (in), 21 SHORTc (in), 22 STATUS (out), 23 CLKout (out), 24 6.3Vrf (out), 25 -Vs (in), 26 SERIAL (out), 27 lsb-12 (out), 28 BIT-11 (out), 29 BIT-10 (out), 30 BIT-9 (out), 31 BIT-8 (out), 32 BIT-7 (out)

## AD-ADC84
designator U?
footprint DIP-32
pins: 1 BIT-12 (out), 2 BIT-11 (out), 3 BIT-10 (out), 4 BIT-9 (out), 5 BIT-8 (out), 6 BIT-7 (out), 7 BIT-6 (out), 8 BIT-5 (out), 9 BIT-4 (out), 10 BIT-3 (out), 11 BIT-2 (out), 12 BIT-1 (out), 13 ~{BIT-1} (out), 14 SHORTc (in), 15 GND (power) hidden to GND, 16 VCC (power) hidden to VCC, 17 CLKcnt (in), 18 6.3Vrf (out), 19 CLKout (out), 20 STATUS (out), 21 CNVCMD (in), 22 COMPin (in), 23 BPLRof, 24 10Vspn, 25 20Vspn, 26 AN-GND (in), 27 GAINaj, 28 +Vs (in), 29 BUFout (out), 30 BUF-in (in), 31 -Vs (in), 32 SERIAL (out)

## AD-DAC71-I
designator U?
footprint DIP-24
pins: 1 MSB-1 (in), 2 BIT-2 (in), 3 BIT-3 (in), 4 BIT-4 (in), 5 BIT-5 (in), 6 BIT-6 (in), 7 BIT-7 (in), 8 BIT-8 (in), 9 BIT-9 (in), 10 BIT-10 (in), 11 BIT-11 (in), 12 BIT-12 (in), 13 BIT-13 (in), 14 BIT-14 (in), 15 BIT-15 (in), 16 LSB-16 (in), 17 Rf, 18 VCC (power) hidden to VCC, 19 -Vs (in), 20 GND (power) hidden to GND, 21 Iout, 22 G-ADJ, 23 +Vs (in), 24 6.3Vou (out)

## AD-DAC71-V
designator U?
footprint DIP-24
pins: 1 MSB-1 (in), 2 BIT-2 (in), 3 BIT-3 (in), 4 BIT-4 (in), 5 BIT-5 (in), 6 BIT-6 (in), 7 BIT-7 (in), 8 BIT-8 (in), 9 BIT-9 (in), 10 BIT-10 (in), 11 BIT-11 (in), 12 BIT-12 (in), 13 BIT-13 (in), 14 BIT-14 (in), 15 BIT-15 (in), 16 LSB-16 (in), 17 Vout (out), 18 VCC (power) hidden to VCC, 19 -Vs (in), 20 GND (power) hidden to GND, 21 SUMjnc, 22 G-ADJ, 23 +Vs (in), 24 6.3Vou (out)

## AD-DAC80-I
designator U?
footprint DIP-24
pins: 1 MSB-1 (in), 2 BIT-2 (in), 3 BIT-3 (in), 4 BIT-4 (in), 5 BIT-5 (in), 6 BIT-6 (in), 7 BIT-7 (in), 8 BIT-8 (in), 9 BIT-9 (in), 10 BIT-10 (in), 11 BIT-11 (in), 12 LSB-12 (in), 13 VCC (power) hidden to VCC, 14 -Vs (in), 15 Iout, 16 REFin (in), 17 BPLRof, 18 SCALnt, 19 SCALnt, 20 SCALnt, 21 GND (power) hidden to GND, 22 +Vs (in), 23 G-ADJ, 24 6.3Vou (out)

## AD-DAC80-V
designator U?
footprint DIP-24
pins: 1 MSB-1 (in), 2 BIT-2 (in), 3 BIT-3 (in), 4 BIT-4 (in), 5 BIT-5 (in), 6 BIT-6 (in), 7 BIT-7 (in), 8 BIT-8 (in), 9 BIT-9 (in), 10 BIT-10 (in), 11 BIT-11 (in), 12 LSB-12 (in), 13 VCC (power) hidden to VCC, 14 -Vs (in), 15 Vout (out), 16 REFin (in), 17 BPLRof, 18 10Vrng, 19 20Vrng, 20 SUMjnc, 21 GND (power) hidden to GND, 22 +Vs (in), 23 G-ADJ, 24 6.3Vou (out)

## AD-DAC100
designator U?
footprint DIP-16
pins: 1 Rb, 2 -Vs (in), 3 OUTPUT, 4 LSB-10 (in), 5 BIT-9 (in), 6 BIT-8 (in), 7 BIT-7 (in), 8 BIT-6 (in), 9 BIT-5 (in), 10 BIT-4 (in), 11 BIT-3 (in), 12 BIT-2 (in), 13 MSB-1 (in), 14 +Vs (in), 15 FS-ADJ, 16 Rs

## AD-DAC-08
designator U?
footprint DIP-16
pins: 1 THRcnt (in), 2 Iout, 3 -Vs (in), 4 Iout, 5 msb-B1 (in), 6 B2 (in), 7 B3 (in), 8 B4 (in), 9 B5 (in), 10 B6 (in), 11 B7 (in), 12 lsb-B8 (in), 13 +Vs (in), 14 Vrf(+) (in), 15 Vrf(-) (in), 16 COMPen

## ADC0800
designator U?
footprint DIP-18
pins: 1 2-4 (hiz), 2 2-3 (hiz), 3 2-2 (hiz), 4 msb2-1 (hiz), 5 Rnet-B, 6 START (in), 7 ENABLE (in), 8 -Vgg (in), 9 EOC (out), 10 Vss (in), 11 CLOCK (in), 12 Vin (in), 13 lsb2-8 (hiz), 14 2-7 (hiz), 15 Rnet-T, 16 2-6 (hiz), 17 2-5 (hiz), 18 Vdd (in)

## ADC0801
designator U?
footprint DIP-20
pins: 1 CS (in), 2 RD (in), 3 WR (in), 4 CLK-IN (in), 5 INTR (out), 6 Vin(+) (in), 7 Vin(-) (in), 8 A-GND (in), 9 Vref/2 (in), 10 GND (power) hidden to GND, 11 msbDB7 (hiz), 12 DB6 (hiz), 13 DB5 (hiz), 14 DB4 (hiz), 15 DB3 (hiz), 16 DB2 (hiz), 17 DB1 (hiz), 18 lsbDB0 (hiz), 19 CLK-R, 20 VccREF (in)

## ADC0808
designator U?
footprint DIP-28
pins: 1 IN-3 (in), 2 IN-4 (in), 3 IN-5 (in), 4 IN-6 (in), 5 IN-7 (in), 6 START (in), 7 EOC (out), 8 2-5 (hiz), 9 ENABLE (in), 10 CLOCK (in), 11 VCC (power) hidden to VCC, 12 ref(+) (in), 13 GND (power) hidden to GND, 14 2-7 (hiz), 15 2-6 (hiz), 16 ref(-) (in), 17 lsb2-8 (hiz), 18 2-4 (hiz), 19 2-3 (hiz), 20 2-2 (hiz), 21 msb2-1 (hiz), 22 ALE (in), 23 ADD-C (in), 24 ADD-B (in), 25 ADD-A (in), 26 IN-0 (in), 27 IN-1 (in), 28 IN-2 (in)

## ADC0816
designator U?
footprint DIP-40
pins: 1 IN-3 (in), 2 IN-4 (in), 3 IN-5 (in), 4 IN-6 (in), 5 IN-7 (in), 6 IN-8 (in), 7 IN-9 (in), 8 IN-10 (in), 9 IN-11 (in), 10 IN-12 (in), 11 IN-13 (in), 12 IN-14 (in), 13 EOC (out), 14 IN-15 (in), 15 MUXout (out), 16 START (in), 17 VCC (power) hidden to VCC, 18 CMPin (in), 19 REF(+) (in), 20 GND (power) hidden to GND, 21 OUTena (in), 22 CLOCK (in), 23 REF(-) (in), 24 lsb2-8 (hiz), 25 2-7 (hiz), 26 2-6 (hiz), 27 2-5 (hiz), 28 2-4 (hiz), 29 2-3 (hiz), 30 2-2 (hiz), 31 msb2-1 (hiz), 32 ALE (in), 33 ADD-D (in), 34 ADD-C (in), 35 ADD-B (in), 36 ADD-A (in), 37 EXPAND (in), 38 IN-0 (in), 39 IN-1 (in), 40 IN-2 (in)

## ADC0820
designator U?
footprint DIP-20
pins: 1 Vin (in), 2 DB0 (hiz), 3 DB1 (hiz), 4 DB2 (hiz), 5 DB3 (hiz), 6 ~{WR}/RDY (oc), 7 MODE (in), 8 RD (in), 9 INT (out), 10 GND (power) hidden to GND, 11 Vrf(-) (in), 12 Vrf(+) (in), 13 CS (in), 14 DB4 (hiz), 15 DB5 (hiz), 16 DB6 (hiz), 17 DB7 (hiz), 18 OFL (out), 20 Vcc (in)

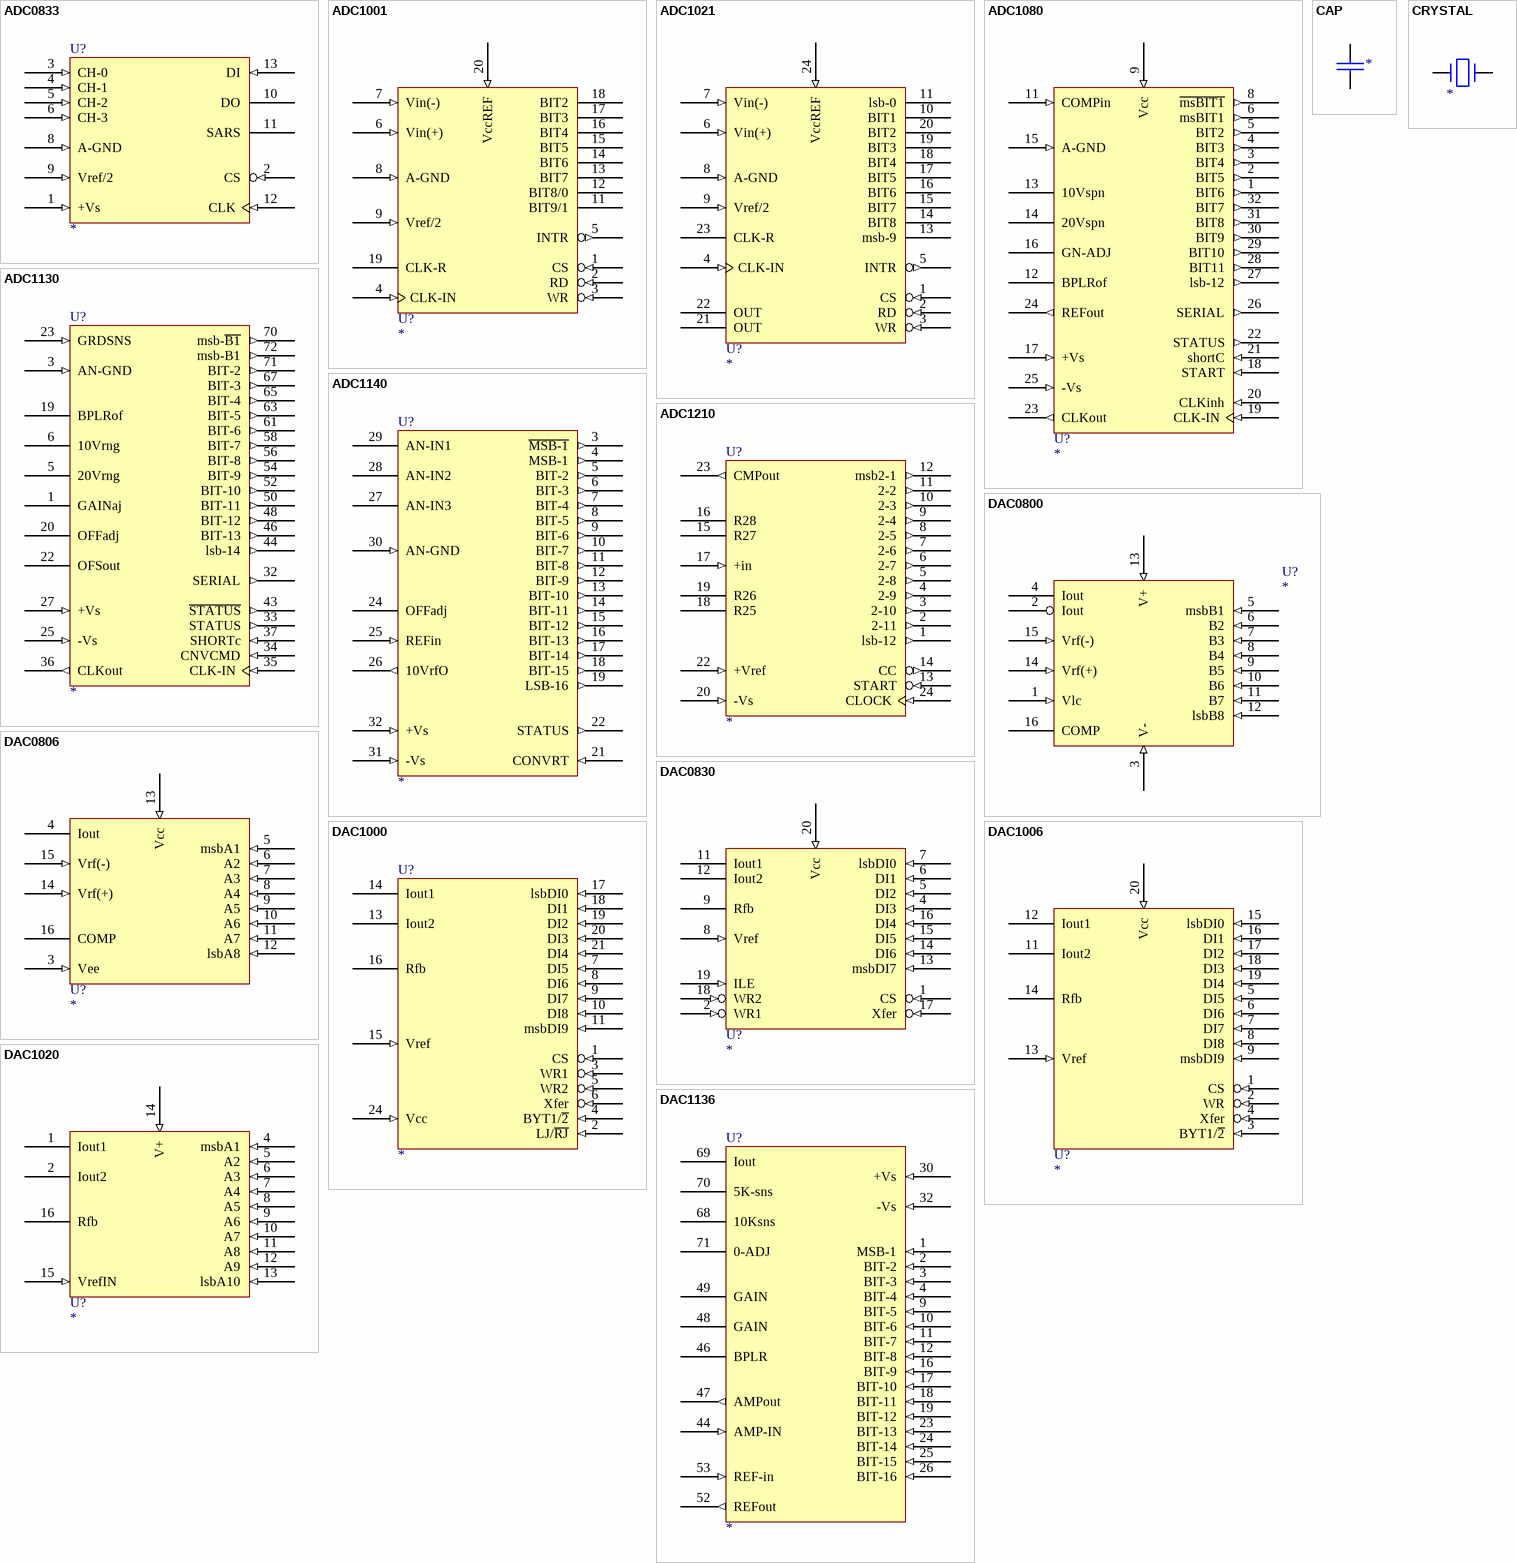
[diagram p46: symbols ADC0833 to DAC1136]

## ADC0833
designator U?
footprint DIP-14
pins: 1 +Vs (in), 2 CS (in), 3 CH-0 (in), 4 CH-1 (in), 5 CH-2 (in), 6 CH-3 (in), 7 GND (power) hidden to GND, 8 A-GND (in), 9 Vref/2 (in), 10 DO (hiz), 11 SARS (hiz), 12 CLK (in), 13 DI (in), 14 VCC (power) hidden to VCC

## ADC1001
designator U?
footprint DIP-20
pins: 1 CS (in), 2 RD (in), 3 WR (in), 4 CLK-IN (in), 5 INTR (out), 6 Vin(+) (in), 7 Vin(-) (in), 8 A-GND (in), 9 Vref/2 (in), 10 GND (power) hidden to GND, 11 BIT9/1 (hiz), 12 BIT8/0 (hiz), 13 BIT7 (hiz), 14 BIT6 (hiz), 15 BIT5 (hiz), 16 BIT4 (hiz), 17 BIT3 (hiz), 18 BIT2 (hiz), 19 CLK-R, 20 VccREF (in)

## ADC1021
designator U?
footprint DIP-24
pins: 1 CS (in), 2 RD (in), 3 WR (in), 4 CLK-IN (in), 5 INTR (out), 6 Vin(+) (in), 7 Vin(-) (in), 8 A-GND (in), 9 Vref/2 (in), 10 BIT1 (hiz), 11 lsb-0 (hiz), 12 GND (power) hidden to GND, 13 msb-9 (hiz), 14 BIT8 (hiz), 15 BIT7 (hiz), 16 BIT6 (hiz), 17 BIT5 (hiz), 18 BIT4 (hiz), 19 BIT3 (hiz), 20 BIT2 (hiz), 21 OUT (hiz), 22 OUT (hiz), 23 CLK-R, 24 VccREF (in)

## ADC1080
designator U?
footprint DIP-32
pins: 1 BIT6 (out), 2 BIT5 (out), 3 BIT4 (out), 4 BIT3 (out), 5 BIT2 (out), 6 msBIT1 (out), 8 ~{msBIT1} (out), 9 Vcc (in), 10 GND (power) hidden to GND, 11 COMPin (in), 12 BPLRof, 13 10Vspn, 14 20Vspn, 15 A-GND (in), 16 GN-ADJ, 17 +Vs (in), 18 START (in), 19 CLK-IN (in), 20 CLKinh (in), 21 shortC (in), 22 STATUS (out), 23 CLKout (out), 24 REFout (out), 25 -Vs (in), 26 SERIAL (out), 27 lsb-12 (out), 28 BIT11 (out), 29 BIT10 (out), 30 BIT9 (out), 31 BIT8 (out), 32 BIT7 (out)

## ADC1130
designator U?
footprint HYB72
pins: 1 GAINaj, 3 AN-GND (in), 5 20Vrng, 6 10Vrng, 19 BPLRof, 20 OFFadj, 22 OFSout, 23 GRDSNS (in), 25 -Vs (in), 27 +Vs (in), 29 VCC (power) hidden to VCC, 30 GND (power) hidden to GND, 32 SERIAL (out), 33 STATUS (out), 34 CNVCMD (in), 35 CLK-IN (in), 36 CLKout (out), 37 SHORTc (in), 43 ~{STATUS} (out), 44 lsb-14 (out), 46 BIT-13 (out), 48 BIT-12 (out), 50 BIT-11 (out), 52 BIT-10 (out), 54 BIT-9 (out), 56 BIT-8 (out), 58 BIT-7 (out), 61 BIT-6 (out), 63 BIT-5 (out), 65 BIT-4 (out), 67 BIT-3 (out), 70 msb-~{B1} (out), 71 BIT-2 (out), 72 msb-B1 (out)

## ADC1140
designator U?
footprint HYB32
pins: 1 VCC (power) hidden to VCC, 2 GND (power) hidden to GND, 3 ~{MSB-1} (out), 4 MSB-1 (out), 5 BIT-2 (out), 6 BIT-3 (out), 7 BIT-4 (out), 8 BIT-5 (out), 9 BIT-6 (out), 10 BIT-7 (out), 11 BIT-8 (out), 12 BIT-9 (out), 13 BIT-10 (out), 14 BIT-11 (out), 15 BIT-12 (out), 16 BIT-13 (out), 17 BIT-14 (out), 18 BIT-15 (out), 19 LSB-16 (out), 21 CONVRT (in), 22 STATUS (out), 24 OFFadj, 25 REFin (in), 26 10VrfO (out), 27 AN-IN3, 28 AN-IN2, 29 AN-IN1, 30 AN-GND (in), 31 -Vs (in), 32 +Vs (in)

## ADC1210
designator U?
footprint DIP-24
pins: 1 lsb-12 (out), 2 2-11 (out), 3 2-10 (out), 4 2-9 (out), 5 2-8 (out), 6 2-7 (out), 7 2-6 (out), 8 2-5 (out), 9 2-4 (out), 10 2-3 (out), 11 2-2 (out), 12 msb2-1 (out), 13 START (in), 14 CC (out), 15 R27, 16 R28, 17 +in (in), 18 R25, 19 R26, 20 -Vs (in), 21 GND (power) hidden to GND, 22 +Vref (in), 23 CMPout (out), 24 CLOCK (in)

## CAP
designator ?
pins: 1, 2

## CRYSTAL
designator ?
pins: 1, 2

## DAC0800
designator U?
footprint DIP-16
pins: 1 Vlc (in), 2 Iout, 3 V- (in), 4 Iout, 5 msbB1 (in), 6 B2 (in), 7 B3 (in), 8 B4 (in), 9 B5 (in), 10 B6 (in), 11 B7 (in), 12 lsbB8 (in), 13 V+ (in), 14 Vrf(+) (in), 15 Vrf(-) (in), 16 COMP

## DAC0806
designator U?
footprint DIP-16
pins: 2 GND (power) hidden to GND, 3 Vee (in), 4 Iout, 5 msbA1 (in), 6 A2 (in), 7 A3 (in), 8 A4 (in), 9 A5 (in), 10 A6 (in), 11 A7 (in), 12 lsbA8 (in), 13 Vcc (in), 14 Vrf(+) (in), 15 Vrf(-) (in), 16 COMP